# Altium integrated library Renesas Microcontroller H8S.IntLib: 670 symbols (part 7 of 70)
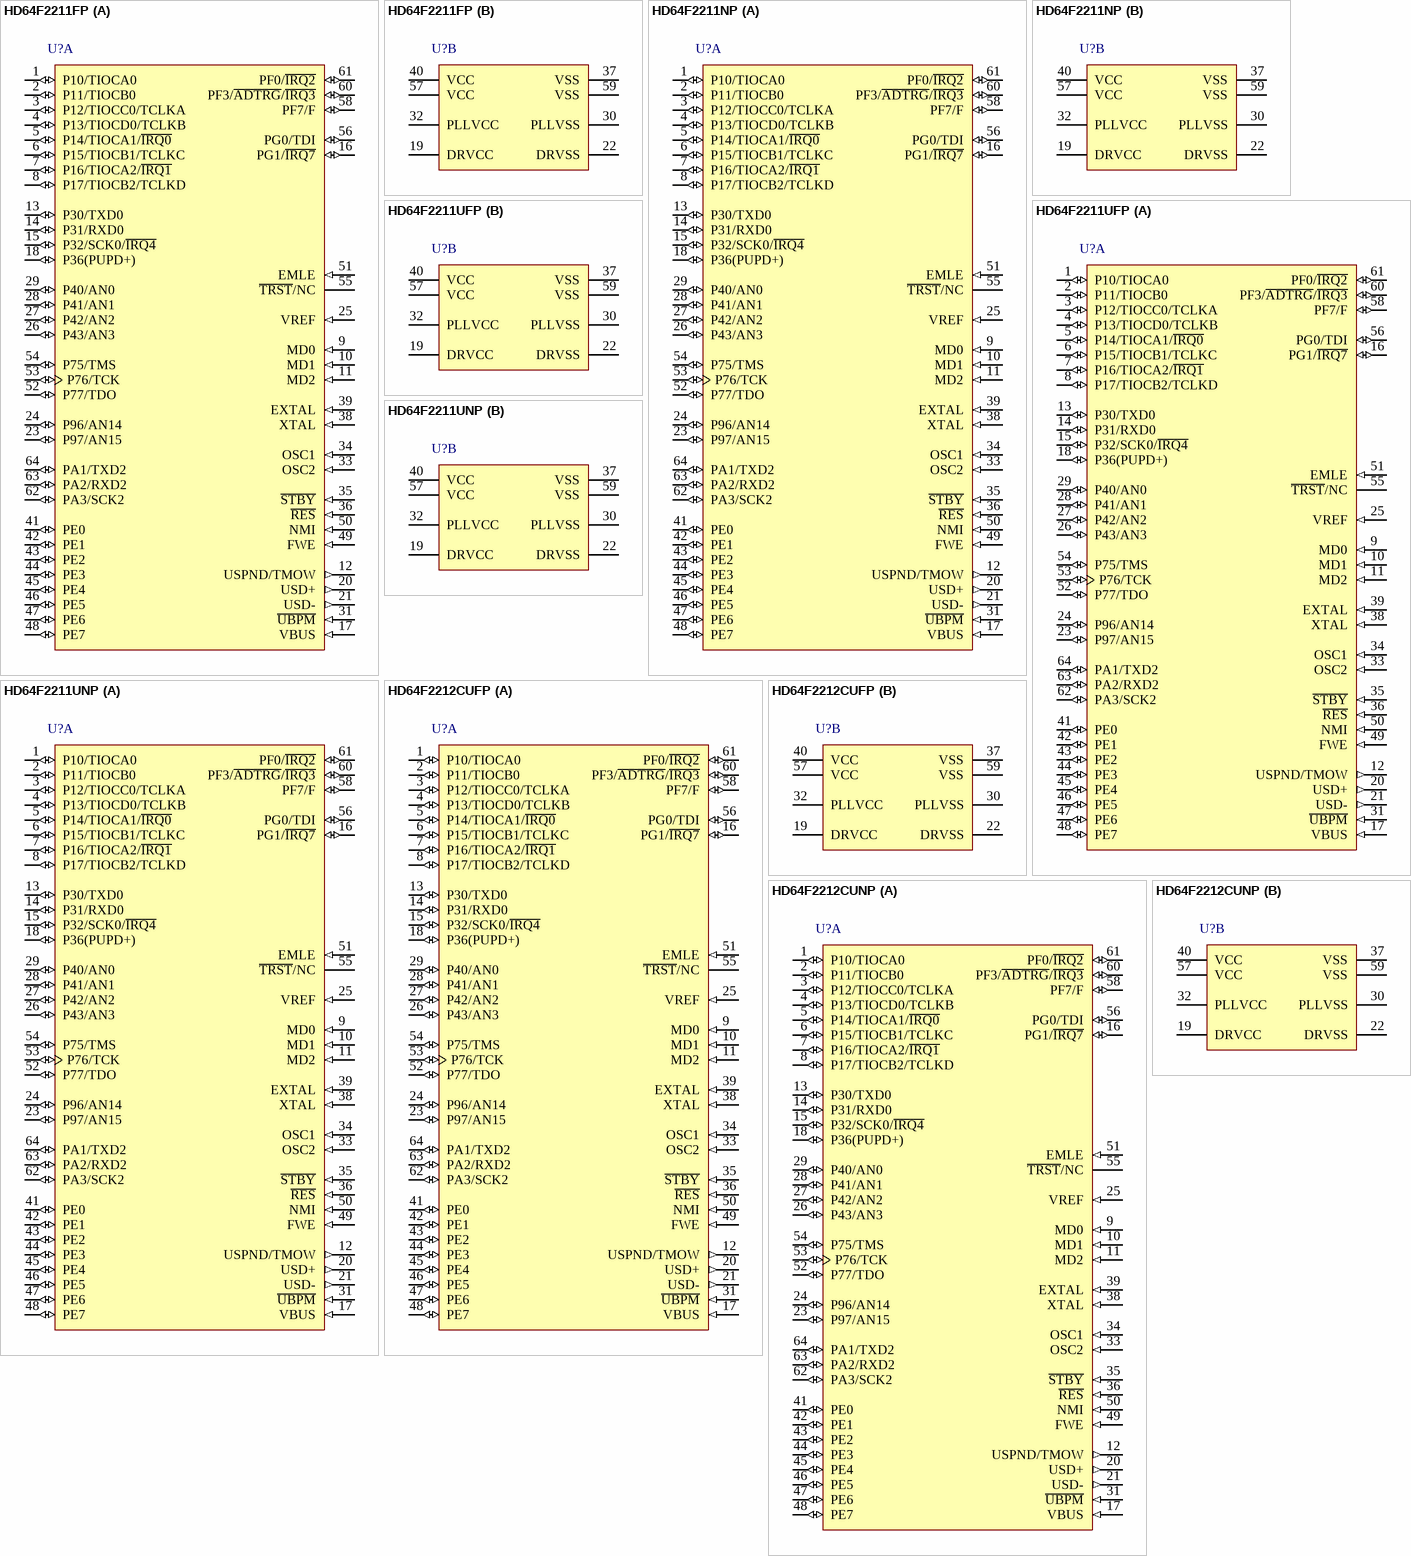
[diagram p248: symbols HD64F2211FP to HD64F2212CUNP]

## HD64F2212CUFP
designator U?
Flash memory H8S/2200 Series, 2212 Group MCU, 128K ROM, 12K RAM, FP-64E Pkg; Published: 28-Aug-2009; DatasheetVersion: Rev.7.00, Dec-2008; PackageVersion: Sep-2005; PackageReference: PLQP0064KC-A; Publisher: Altium Limited; PackageDescription: 64-Pin Plastic Low Profile QFP, 10 x 10 x 1.45 mm Body, 0.5 mm Pitch; Code_JEITA: P-LQFP64-10x10-0.50; Code_IPC: SQFP50P1200X1200-64; ComponentLink1Description: Manufacturer Link; ComponentLink1URL: http://sg.renesas.com/fmwk.jsp?cnt=h8s_family_landing.jsp&fp=/products/mpumcu/h8s_family/; ComponentLink2Description: Datasheet; ComponentLink2URL: http://documentation.renesas.com/eng/products/mpumcu/rej09b0074_h8s2212.pdf; ComponentLink3Description: Packaging Specification; ComponentLink3URL: http://sg.renesas.com/media/products/common_info/package/pdf/ic/code/plqp0064kc_a.pdf
footprint PLQP0064KC-A_N (Shrink QFP, 64-Leads, Body 10x10mm, Pitch 0.5mm, IPC Medium Density)
footprint PLQP0064KC-A_L (Shrink QFP, 64-Leads, Body 10x10mm, Pitch 0.5mm, IPC High Density)
footprint PLQP0064KC-A_M (Shrink QFP, 64-Leads, Body 10x10mm, Pitch 0.5mm, IPC Low Density)
part A pins: 1 P10/TIOCA0 (io), 2 P11/TIOCB0 (io), 3 P12/TIOCC0/TCLKA (io), 4 P13/TIOCD0/TCLKB (io), 5 P14/TIOCA1/~{IRQ0} (io), 6 P15/TIOCB1/TCLKC (io), 7 P16/TIOCA2/~{IRQ1} (io), 8 P17/TIOCB2/TCLKD (io), 9 MD0 (in), 10 MD1 (in), 11 MD2 (in), 12 USPND/TMOW (out), 13 P30/TXD0 (io), 14 P31/RXD0 (io), 15 P32/SCK0/~{IRQ4} (io), 16 PG1/~{IRQ7} (io), 17 VBUS (in), 18 P36(PUPD+) (io), 20 USD+ (out), 21 USD- (out), 23 P97/AN15 (io), 24 P96/AN14 (io), 25 VREF (in), 26 P43/AN3 (io), 27 P42/AN2 (io), 28 P41/AN1 (io), 29 P40/AN0 (io), 31 ~{UBPM} (in), 33 OSC2 (in), 34 OSC1 (in), 35 ~{STBY} (in), 36 ~{RES} (in), 38 XTAL (in), 39 EXTAL (in), 41 PE0 (io), 42 PE1 (io), 43 PE2 (io), 44 PE3 (io), 45 PE4 (io), 46 PE5 (io), 47 PE6 (io), 48 PE7 (io), 49 FWE (in), 50 NMI (in), 51 EMLE (in), 52 P77/TDO (io), 53 P76/TCK (io), 54 P75/TMS (io), 55 ~{TRST}/NC, 56 PG0/TDI (io), 58 PF7/F (io), 60 PF3/~{ADTRG}/~{IRQ3} (io), 61 PF0/~{IRQ2} (io), 62 PA3/SCK2 (io), 63 PA2/RXD2 (io), 64 PA1/TXD2 (io)
part B pins: 19 DRVCC (power), 22 DRVSS (power), 30 PLLVSS (power), 32 PLLVCC (power), 37 VSS (power), 40 VCC (power), 57 VCC (power), 59 VSS (power)

## HD64F2212CUNP
designator U?
Flash memory H8S/2200 Series, 2212 Group MCU, 128K ROM, 12K RAM, TNP-64B Pkg; Published: 28-Aug-2009; DatasheetVersion: Rev.7.00, Dec-2008; PackageVersion: Jun-2008; PackageReference: PVQN0064LB-A; Publisher: Altium Limited; PackageDescription: 64-Pin Plastic Very Thin QFN, 8 x 8 X 0.89 mm Body, 0.4 mm Pitch; Code_JEITA: P-VQFN64-8x8-0.40; ComponentLink1Description: Manufacturer Link; ComponentLink1URL: http://sg.renesas.com/fmwk.jsp?cnt=h8s_family_landing.jsp&fp=/products/mpumcu/h8s_family/; ComponentLink2Description: Datasheet; ComponentLink2URL: http://documentation.renesas.com/eng/products/mpumcu/rej09b0074_h8s2212.pdf; ComponentLink3Description: Packaging Specification; ComponentLink3URL: http://sg.renesas.com/media/products/common_info/package/pdf/ic/code/pvqn0064lb_a.pdf
footprint PVQN0064LB-A_N (QFN, 64-Leads, Body 8x8 mm, Pitch 0.4mm, IPC Medium Density)
footprint PVQN0064LB-A_L (QFN, 64-Leads, Body 8x8 mm, Pitch 0.4mm, IPC High Density)
footprint PVQN0064LB-A_M (QFN, 64-Leads, Body 8x8 mm, Pitch 0.4mm, IPC Low Density)
part A pins: 1 P10/TIOCA0 (io), 2 P11/TIOCB0 (io), 3 P12/TIOCC0/TCLKA (io), 4 P13/TIOCD0/TCLKB (io), 5 P14/TIOCA1/~{IRQ0} (io), 6 P15/TIOCB1/TCLKC (io), 7 P16/TIOCA2/~{IRQ1} (io), 8 P17/TIOCB2/TCLKD (io), 9 MD0 (in), 10 MD1 (in), 11 MD2 (in), 12 USPND/TMOW (out), 13 P30/TXD0 (io), 14 P31/RXD0 (io), 15 P32/SCK0/~{IRQ4} (io), 16 PG1/~{IRQ7} (io), 17 VBUS (in), 18 P36(PUPD+) (io), 20 USD+ (out), 21 USD- (out), 23 P97/AN15 (io), 24 P96/AN14 (io), 25 VREF (in), 26 P43/AN3 (io), 27 P42/AN2 (io), 28 P41/AN1 (io), 29 P40/AN0 (io), 31 ~{UBPM} (in), 33 OSC2 (in), 34 OSC1 (in), 35 ~{STBY} (in), 36 ~{RES} (in), 38 XTAL (in), 39 EXTAL (in), 41 PE0 (io), 42 PE1 (io), 43 PE2 (io), 44 PE3 (io), 45 PE4 (io), 46 PE5 (io), 47 PE6 (io), 48 PE7 (io), 49 FWE (in), 50 NMI (in), 51 EMLE (in), 52 P77/TDO (io), 53 P76/TCK (io), 54 P75/TMS (io), 55 ~{TRST}/NC, 56 PG0/TDI (io), 58 PF7/F (io), 60 PF3/~{ADTRG}/~{IRQ3} (io), 61 PF0/~{IRQ2} (io), 62 PA3/SCK2 (io), 63 PA2/RXD2 (io), 64 PA1/TXD2 (io)
part B pins: 19 DRVCC (power), 22 DRVSS (power), 30 PLLVSS (power), 32 PLLVCC (power), 37 VSS (power), 40 VCC (power), 57 VCC (power), 59 VSS (power)

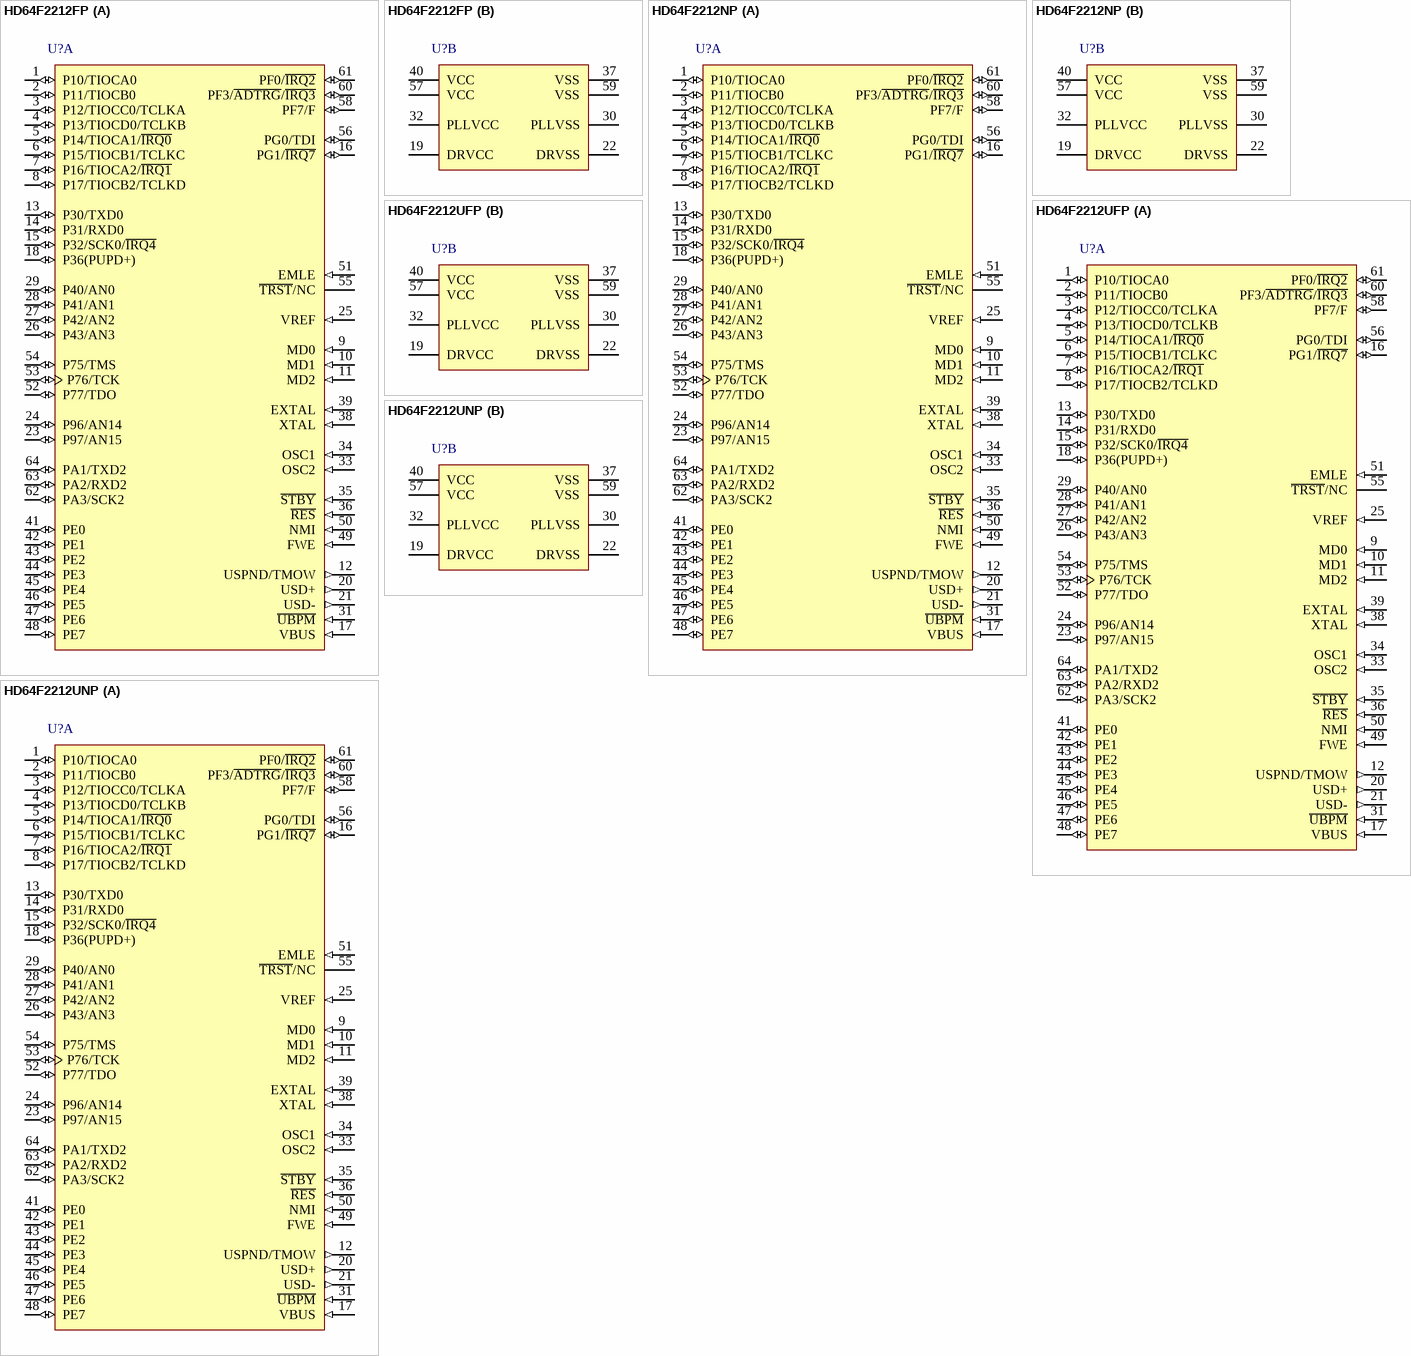
[diagram p23: symbols HD64F2212FP to HD64F2212UNP]

## HD64F2212FP
designator U?
Flash memory H8S/2200 Series, 2212 Group MCU, 128K ROM, 12K RAM, FP-64E Pkg; Published: 28-Aug-2009; DatasheetVersion: Rev.7.00, Dec-2008; PackageVersion: Sep-2005; PackageReference: PLQP0064KC-A; Publisher: Altium Limited; PackageDescription: 64-Pin Plastic Low Profile QFP, 10 x 10 x 1.45 mm Body, 0.5 mm Pitch; Code_JEITA: P-LQFP64-10x10-0.50; Code_IPC: SQFP50P1200X1200-64; ComponentLink1Description: Manufacturer Link; ComponentLink1URL: http://sg.renesas.com/fmwk.jsp?cnt=h8s_family_landing.jsp&fp=/products/mpumcu/h8s_family/; ComponentLink2Description: Datasheet; ComponentLink2URL: http://documentation.renesas.com/eng/products/mpumcu/rej09b0074_h8s2212.pdf; ComponentLink3Description: Packaging Specification; ComponentLink3URL: http://sg.renesas.com/media/products/common_info/package/pdf/ic/code/plqp0064kc_a.pdf
footprint PLQP0064KC-A_N (Shrink QFP, 64-Leads, Body 10x10mm, Pitch 0.5mm, IPC Medium Density)
footprint PLQP0064KC-A_L (Shrink QFP, 64-Leads, Body 10x10mm, Pitch 0.5mm, IPC High Density)
footprint PLQP0064KC-A_M (Shrink QFP, 64-Leads, Body 10x10mm, Pitch 0.5mm, IPC Low Density)
part A pins: 1 P10/TIOCA0 (io), 2 P11/TIOCB0 (io), 3 P12/TIOCC0/TCLKA (io), 4 P13/TIOCD0/TCLKB (io), 5 P14/TIOCA1/~{IRQ0} (io), 6 P15/TIOCB1/TCLKC (io), 7 P16/TIOCA2/~{IRQ1} (io), 8 P17/TIOCB2/TCLKD (io), 9 MD0 (in), 10 MD1 (in), 11 MD2 (in), 12 USPND/TMOW (out), 13 P30/TXD0 (io), 14 P31/RXD0 (io), 15 P32/SCK0/~{IRQ4} (io), 16 PG1/~{IRQ7} (io), 17 VBUS (in), 18 P36(PUPD+) (io), 20 USD+ (out), 21 USD- (out), 23 P97/AN15 (io), 24 P96/AN14 (io), 25 VREF (in), 26 P43/AN3 (io), 27 P42/AN2 (io), 28 P41/AN1 (io), 29 P40/AN0 (io), 31 ~{UBPM} (in), 33 OSC2 (in), 34 OSC1 (in), 35 ~{STBY} (in), 36 ~{RES} (in), 38 XTAL (in), 39 EXTAL (in), 41 PE0 (io), 42 PE1 (io), 43 PE2 (io), 44 PE3 (io), 45 PE4 (io), 46 PE5 (io), 47 PE6 (io), 48 PE7 (io), 49 FWE (in), 50 NMI (in), 51 EMLE (in), 52 P77/TDO (io), 53 P76/TCK (io), 54 P75/TMS (io), 55 ~{TRST}/NC, 56 PG0/TDI (io), 58 PF7/F (io), 60 PF3/~{ADTRG}/~{IRQ3} (io), 61 PF0/~{IRQ2} (io), 62 PA3/SCK2 (io), 63 PA2/RXD2 (io), 64 PA1/TXD2 (io)
part B pins: 19 DRVCC (power), 22 DRVSS (power), 30 PLLVSS (power), 32 PLLVCC (power), 37 VSS (power), 40 VCC (power), 57 VCC (power), 59 VSS (power)

## HD64F2212NP
designator U?
Flash memory H8S/2200 Series, 2212 Group MCU, 128K ROM, 12K RAM, TNP-64B Pkg; Published: 28-Aug-2009; DatasheetVersion: Rev.7.00, Dec-2008; PackageVersion: Jun-2008; PackageReference: PVQN0064LB-A; Publisher: Altium Limited; PackageDescription: 64-Pin Plastic Very Thin QFN, 8 x 8 X 0.89 mm Body, 0.4 mm Pitch; Code_JEITA: P-VQFN64-8x8-0.40; ComponentLink1Description: Manufacturer Link; ComponentLink1URL: http://sg.renesas.com/fmwk.jsp?cnt=h8s_family_landing.jsp&fp=/products/mpumcu/h8s_family/; ComponentLink2Description: Datasheet; ComponentLink2URL: http://documentation.renesas.com/eng/products/mpumcu/rej09b0074_h8s2212.pdf; ComponentLink3Description: Packaging Specification; ComponentLink3URL: http://sg.renesas.com/media/products/common_info/package/pdf/ic/code/pvqn0064lb_a.pdf
footprint PVQN0064LB-A_N (QFN, 64-Leads, Body 8x8 mm, Pitch 0.4mm, IPC Medium Density)
footprint PVQN0064LB-A_L (QFN, 64-Leads, Body 8x8 mm, Pitch 0.4mm, IPC High Density)
footprint PVQN0064LB-A_M (QFN, 64-Leads, Body 8x8 mm, Pitch 0.4mm, IPC Low Density)
part A pins: 1 P10/TIOCA0 (io), 2 P11/TIOCB0 (io), 3 P12/TIOCC0/TCLKA (io), 4 P13/TIOCD0/TCLKB (io), 5 P14/TIOCA1/~{IRQ0} (io), 6 P15/TIOCB1/TCLKC (io), 7 P16/TIOCA2/~{IRQ1} (io), 8 P17/TIOCB2/TCLKD (io), 9 MD0 (in), 10 MD1 (in), 11 MD2 (in), 12 USPND/TMOW (out), 13 P30/TXD0 (io), 14 P31/RXD0 (io), 15 P32/SCK0/~{IRQ4} (io), 16 PG1/~{IRQ7} (io), 17 VBUS (in), 18 P36(PUPD+) (io), 20 USD+ (out), 21 USD- (out), 23 P97/AN15 (io), 24 P96/AN14 (io), 25 VREF (in), 26 P43/AN3 (io), 27 P42/AN2 (io), 28 P41/AN1 (io), 29 P40/AN0 (io), 31 ~{UBPM} (in), 33 OSC2 (in), 34 OSC1 (in), 35 ~{STBY} (in), 36 ~{RES} (in), 38 XTAL (in), 39 EXTAL (in), 41 PE0 (io), 42 PE1 (io), 43 PE2 (io), 44 PE3 (io), 45 PE4 (io), 46 PE5 (io), 47 PE6 (io), 48 PE7 (io), 49 FWE (in), 50 NMI (in), 51 EMLE (in), 52 P77/TDO (io), 53 P76/TCK (io), 54 P75/TMS (io), 55 ~{TRST}/NC, 56 PG0/TDI (io), 58 PF7/F (io), 60 PF3/~{ADTRG}/~{IRQ3} (io), 61 PF0/~{IRQ2} (io), 62 PA3/SCK2 (io), 63 PA2/RXD2 (io), 64 PA1/TXD2 (io)
part B pins: 19 DRVCC (power), 22 DRVSS (power), 30 PLLVSS (power), 32 PLLVCC (power), 37 VSS (power), 40 VCC (power), 57 VCC (power), 59 VSS (power)

## HD64F2212UFP
designator U?
Flash memory H8S/2200 Series, 2212 Group MCU, 128K ROM, 12K RAM, FP-64E Pkg; Published: 28-Aug-2009; DatasheetVersion: Rev.7.00, Dec-2008; PackageVersion: Sep-2005; PackageReference: PLQP0064KC-A; Publisher: Altium Limited; PackageDescription: 64-Pin Plastic Low Profile QFP, 10 x 10 x 1.45 mm Body, 0.5 mm Pitch; Code_JEITA: P-LQFP64-10x10-0.50; Code_IPC: SQFP50P1200X1200-64; ComponentLink1Description: Manufacturer Link; ComponentLink1URL: http://sg.renesas.com/fmwk.jsp?cnt=h8s_family_landing.jsp&fp=/products/mpumcu/h8s_family/; ComponentLink2Description: Datasheet; ComponentLink2URL: http://documentation.renesas.com/eng/products/mpumcu/rej09b0074_h8s2212.pdf; ComponentLink3Description: Packaging Specification; ComponentLink3URL: http://sg.renesas.com/media/products/common_info/package/pdf/ic/code/plqp0064kc_a.pdf
footprint PLQP0064KC-A_N (Shrink QFP, 64-Leads, Body 10x10mm, Pitch 0.5mm, IPC Medium Density)
footprint PLQP0064KC-A_L (Shrink QFP, 64-Leads, Body 10x10mm, Pitch 0.5mm, IPC High Density)
footprint PLQP0064KC-A_M (Shrink QFP, 64-Leads, Body 10x10mm, Pitch 0.5mm, IPC Low Density)
part A pins: 1 P10/TIOCA0 (io), 2 P11/TIOCB0 (io), 3 P12/TIOCC0/TCLKA (io), 4 P13/TIOCD0/TCLKB (io), 5 P14/TIOCA1/~{IRQ0} (io), 6 P15/TIOCB1/TCLKC (io), 7 P16/TIOCA2/~{IRQ1} (io), 8 P17/TIOCB2/TCLKD (io), 9 MD0 (in), 10 MD1 (in), 11 MD2 (in), 12 USPND/TMOW (out), 13 P30/TXD0 (io), 14 P31/RXD0 (io), 15 P32/SCK0/~{IRQ4} (io), 16 PG1/~{IRQ7} (io), 17 VBUS (in), 18 P36(PUPD+) (io), 20 USD+ (out), 21 USD- (out), 23 P97/AN15 (io), 24 P96/AN14 (io), 25 VREF (in), 26 P43/AN3 (io), 27 P42/AN2 (io), 28 P41/AN1 (io), 29 P40/AN0 (io), 31 ~{UBPM} (in), 33 OSC2 (in), 34 OSC1 (in), 35 ~{STBY} (in), 36 ~{RES} (in), 38 XTAL (in), 39 EXTAL (in), 41 PE0 (io), 42 PE1 (io), 43 PE2 (io), 44 PE3 (io), 45 PE4 (io), 46 PE5 (io), 47 PE6 (io), 48 PE7 (io), 49 FWE (in), 50 NMI (in), 51 EMLE (in), 52 P77/TDO (io), 53 P76/TCK (io), 54 P75/TMS (io), 55 ~{TRST}/NC, 56 PG0/TDI (io), 58 PF7/F (io), 60 PF3/~{ADTRG}/~{IRQ3} (io), 61 PF0/~{IRQ2} (io), 62 PA3/SCK2 (io), 63 PA2/RXD2 (io), 64 PA1/TXD2 (io)
part B pins: 19 DRVCC (power), 22 DRVSS (power), 30 PLLVSS (power), 32 PLLVCC (power), 37 VSS (power), 40 VCC (power), 57 VCC (power), 59 VSS (power)

## HD64F2212UNP
designator U?
Mask ROM H8S/2200 Series, 2212 Group MCU, 128K ROM, 12K RAM, TNP-64B Pkg; Published: 28-Aug-2009; DatasheetVersion: Rev.7.00, Dec-2008; PackageVersion: Jun-2008; PackageReference: PVQN0064LB-A; Publisher: Altium Limited; PackageDescription: 64-Pin Plastic Very Thin QFN, 8 x 8 X 0.89 mm Body, 0.4 mm Pitch; Code_JEITA: P-VQFN64-8x8-0.40; ComponentLink1Description: Manufacturer Link; ComponentLink1URL: http://sg.renesas.com/fmwk.jsp?cnt=h8s_family_landing.jsp&fp=/products/mpumcu/h8s_family/; ComponentLink2Description: Datasheet; ComponentLink2URL: http://documentation.renesas.com/eng/products/mpumcu/rej09b0074_h8s2212.pdf; ComponentLink3Description: Packaging Specification; ComponentLink3URL: http://sg.renesas.com/media/products/common_info/package/pdf/ic/code/pvqn0064lb_a.pdf
footprint PVQN0064LB-A_N (QFN, 64-Leads, Body 8x8 mm, Pitch 0.4mm, IPC Medium Density)
footprint PVQN0064LB-A_L (QFN, 64-Leads, Body 8x8 mm, Pitch 0.4mm, IPC High Density)
footprint PVQN0064LB-A_M (QFN, 64-Leads, Body 8x8 mm, Pitch 0.4mm, IPC Low Density)
part A pins: 1 P10/TIOCA0 (io), 2 P11/TIOCB0 (io), 3 P12/TIOCC0/TCLKA (io), 4 P13/TIOCD0/TCLKB (io), 5 P14/TIOCA1/~{IRQ0} (io), 6 P15/TIOCB1/TCLKC (io), 7 P16/TIOCA2/~{IRQ1} (io), 8 P17/TIOCB2/TCLKD (io), 9 MD0 (in), 10 MD1 (in), 11 MD2 (in), 12 USPND/TMOW (out), 13 P30/TXD0 (io), 14 P31/RXD0 (io), 15 P32/SCK0/~{IRQ4} (io), 16 PG1/~{IRQ7} (io), 17 VBUS (in), 18 P36(PUPD+) (io), 20 USD+ (out), 21 USD- (out), 23 P97/AN15 (io), 24 P96/AN14 (io), 25 VREF (in), 26 P43/AN3 (io), 27 P42/AN2 (io), 28 P41/AN1 (io), 29 P40/AN0 (io), 31 ~{UBPM} (in), 33 OSC2 (in), 34 OSC1 (in), 35 ~{STBY} (in), 36 ~{RES} (in), 38 XTAL (in), 39 EXTAL (in), 41 PE0 (io), 42 PE1 (io), 43 PE2 (io), 44 PE3 (io), 45 PE4 (io), 46 PE5 (io), 47 PE6 (io), 48 PE7 (io), 49 FWE (in), 50 NMI (in), 51 EMLE (in), 52 P77/TDO (io), 53 P76/TCK (io), 54 P75/TMS (io), 55 ~{TRST}/NC, 56 PG0/TDI (io), 58 PF7/F (io), 60 PF3/~{ADTRG}/~{IRQ3} (io), 61 PF0/~{IRQ2} (io), 62 PA3/SCK2 (io), 63 PA2/RXD2 (io), 64 PA1/TXD2 (io)
part B pins: 19 DRVCC (power), 22 DRVSS (power), 30 PLLVSS (power), 32 PLLVCC (power), 37 VSS (power), 40 VCC (power), 57 VCC (power), 59 VSS (power)

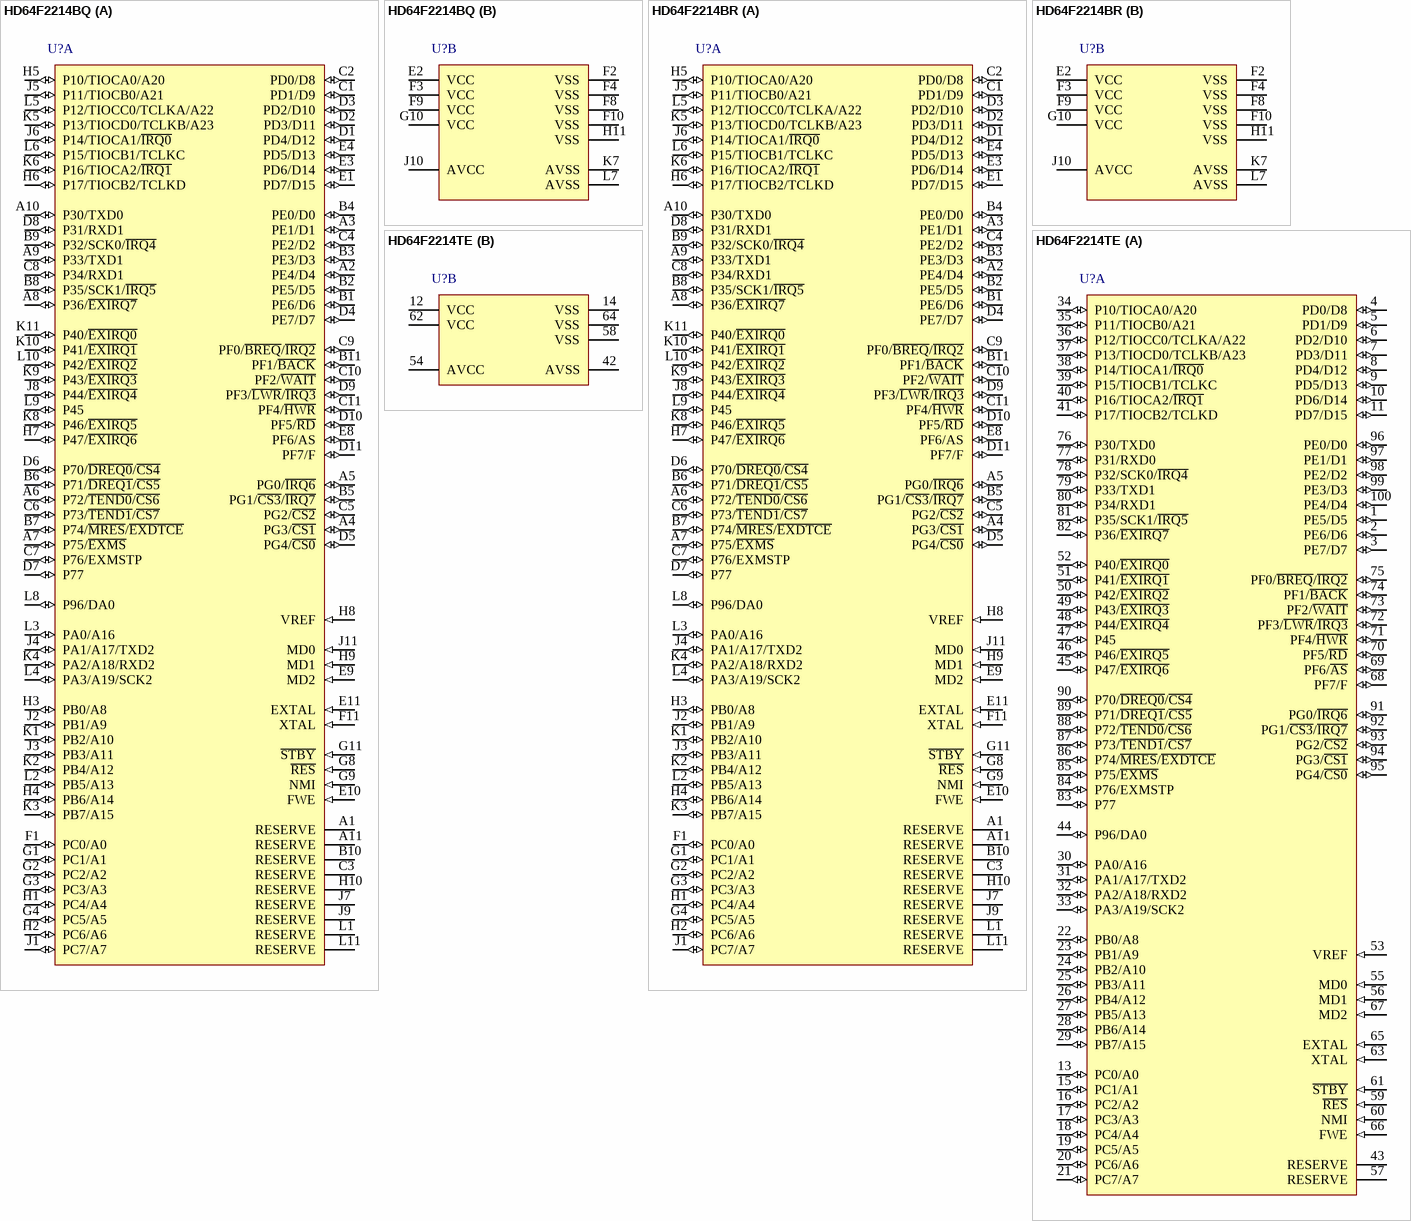
[diagram p24: symbols HD64F2214BQ to HD64F2214TE]

## HD64F2214BQ
designator U?
Flash memory H8S/2200 Series, 2214 Group MCU, 128K ROM, 12K RAM, TBP-112A Pkg; Published: 28-Aug-2009; DatasheetVersion: Rev.4.00, Sep-2008; PackageVersion: Sep-2005; PackageReference: TTBG0112GA-A; Publisher: Altium Limited; PackageDescription: 112-Ball Thin Fine Pitch Ball Grid Array, 10 x 10 mm Body, 0.8 mm Pitch; Code_JEITA: T-TFBGA112-10x10-0.80; ComponentLink1Description: Manufacturer Link; ComponentLink1URL: http://sg.renesas.com/fmwk.jsp?cnt=h8s_family_landing.jsp&fp=/products/mpumcu/h8s_family/; ComponentLink2Description: Datasheet; ComponentLink2URL: http://documentation.renesas.com/eng/products/mpumcu/rej09b0189_h8s2214.pdf; ComponentLink3Description: Packaging Specification; ComponentLink3URL: http://sg.renesas.com/media/products/common_info/package/pdf/ic/code/ttbg0112ga_a.pdf
footprint TTBG0112GA-A (BGA, 112-Leads, Body 10x10mm, Pitch 0.8mm)
part A pins: A1 RESERVE, A2 PE4/D4 (io), A3 PE1/D1 (io), A4 PG3/~{CS1} (io), A5 PG0/~{IRQ6} (io), A6 P72/~{TEND0}/~{CS6} (io), A7 P75/~{EXMS} (io), A8 P36/~{EXIRQ7} (io), A9 P33/TXD1 (io), A10 P30/TXD0 (io), A11 RESERVE, B1 PE6/D6 (io), B2 PE5/D5 (io), B3 PE3/D3 (io), B4 PE0/D0 (io), B5 PG1/~{CS3}/~{IRQ7} (io), B6 P71/~{DREQ1}/~{CS5} (io), B7 P74/~{MRES}/~{EXDTCE} (io), B8 P35/SCK1/~{IRQ5} (io), B9 P32/SCK0/~{IRQ4} (io), B10 RESERVE, B11 PF1/~{BACK} (io), C1 PD1/D9 (io), C2 PD0/D8 (io), C3 RESERVE, C4 PE2/D2 (io), C5 PG2/~{CS2} (io), C6 P73/~{TEND1}/~{CS7} (io), C7 P76/EXMSTP (io), C8 P34/RXD1 (io), C9 PF0/~{BREQ}/~{IRQ2} (io), C10 PF2/~{WAIT} (io), C11 PF4/~{HWR} (io), D1 PD4/D12 (io), D2 PD3/D11 (io), D3 PD2/D10 (io), D4 PE7/D7 (io), D5 PG4/~{CS0} (io), D6 P70/~{DREQ0}/~{CS4} (io), D7 P77 (io), D8 P31/RXD1 (io), D9 PF3/~{LWR}/~{IRQ3} (io), D10 PF5/~{RD} (io), D11 PF7/F (io), E1 PD7/D15 (io), E3 PD6/D14 (io), E4 PD5/D13 (io), E8 PF6/AS (io), E9 MD2 (in), E10 FWE (in), E11 EXTAL (in), F1 PC0/A0 (io), F11 XTAL (in), G1 PC1/A1 (io), G2 PC2/A2 (io), G3 PC3/A3 (io), G4 PC5/A5 (io), G8 ~{RES} (in), G9 NMI (in), G11 ~{STBY} (in), H1 PC4/A4 (io), H2 PC6/A6 (io), H3 PB0/A8 (io), H4 PB6/A14 (io), H5 P10/TIOCA0/A20 (io), H6 P17/TIOCB2/TCLKD (io), H7 P47/~{EXIRQ6} (io), H8 VREF (in), H9 MD1 (in), H10 RESERVE, J1 PC7/A7 (io), J2 PB1/A9 (io), J3 PB3/A11 (io), J4 PA1/A17/TXD2 (io), J5 P11/TIOCB0/A21 (io), J6 P14/TIOCA1/~{IRQ0} (io), J7 RESERVE, J8 P44/~{EXIRQ4} (io), J9 RESERVE, J11 MD0 (in), K1 PB2/A10 (io), K2 PB4/A12 (io), K3 PB7/A15 (io), K4 PA2/A18/RXD2 (io), K5 P13/TIOCD0/TCLKB/A23 (io), K6 P16/TIOCA2/~{IRQ1} (io), K8 P46/~{EXIRQ5} (io), K9 P43/~{EXIRQ3} (io), K10 P41/~{EXIRQ1} (io), K11 P40/~{EXIRQ0} (io), L1 RESERVE, L2 PB5/A13 (io), L3 PA0/A16 (io), L4 PA3/A19/SCK2 (io), L5 P12/TIOCC0/TCLKA/A22 (io), L6 P15/TIOCB1/TCLKC (io), L8 P96/DA0 (io), L9 P45 (io), L10 P42/~{EXIRQ2} (io), L11 RESERVE
part B pins: E2 VCC (power), F2 VSS (power), F3 VCC (power), F4 VSS (power), F8 VSS (power), F9 VCC (power), F10 VSS (power), G10 VCC (power), H11 VSS (power), J10 AVCC (power), K7 AVSS (power), L7 AVSS (power)

## HD64F2214BR
designator U?
Flash memory H8S/2200 Series, 2214 Group MCU, 128K ROM, 12K RAM, BP-112 Pkg; Published: 28-Aug-2009; DatasheetVersion: Rev.4.00, Sep-2008; PackageVersion: Sep-2005; PackageReference: PLBG0112GA-A; Publisher: Altium Limited; PackageDescription: 112-Ball Plastic Low Profile Thin-Fine Pitch BGA, 10 x 10 mm Body, 0.8 mm Pitch; Code_JEITA: P-LFBGA112-10x10-0.80; ComponentLink1Description: Manufacturer Link; ComponentLink1URL: http://sg.renesas.com/fmwk.jsp?cnt=h8s_family_landing.jsp&fp=/products/mpumcu/h8s_family/; ComponentLink2Description: Datasheet; ComponentLink2URL: http://documentation.renesas.com/eng/products/mpumcu/rej09b0189_h8s2214.pdf; ComponentLink3Description: Packaging Specification; ComponentLink3URL: http://sg.renesas.com/media/products/common_info/package/pdf/ic/code/plbg0112ga_a.pdf
footprint PLBG0112GA-A (BGA, 112-Leads, Body 10x10mm, Pitch 0.8mm)
part A pins: A1 RESERVE, A2 PE4/D4 (io), A3 PE1/D1 (io), A4 PG3/~{CS1} (io), A5 PG0/~{IRQ6} (io), A6 P72/~{TEND0}/~{CS6} (io), A7 P75/~{EXMS} (io), A8 P36/~{EXIRQ7} (io), A9 P33/TXD1 (io), A10 P30/TXD0 (io), A11 RESERVE, B1 PE6/D6 (io), B2 PE5/D5 (io), B3 PE3/D3 (io), B4 PE0/D0 (io), B5 PG1/~{CS3}/~{IRQ7} (io), B6 P71/~{DREQ1}/~{CS5} (io), B7 P74/~{MRES}/~{EXDTCE} (io), B8 P35/SCK1/~{IRQ5} (io), B9 P32/SCK0/~{IRQ4} (io), B10 RESERVE, B11 PF1/~{BACK} (io), C1 PD1/D9 (io), C2 PD0/D8 (io), C3 RESERVE, C4 PE2/D2 (io), C5 PG2/~{CS2} (io), C6 P73/~{TEND1}/~{CS7} (io), C7 P76/EXMSTP (io), C8 P34/RXD1 (io), C9 PF0/~{BREQ}/~{IRQ2} (io), C10 PF2/~{WAIT} (io), C11 PF4/~{HWR} (io), D1 PD4/D12 (io), D2 PD3/D11 (io), D3 PD2/D10 (io), D4 PE7/D7 (io), D5 PG4/~{CS0} (io), D6 P70/~{DREQ0}/~{CS4} (io), D7 P77 (io), D8 P31/RXD1 (io), D9 PF3/~{LWR}/~{IRQ3} (io), D10 PF5/~{RD} (io), D11 PF7/F (io), E1 PD7/D15 (io), E3 PD6/D14 (io), E4 PD5/D13 (io), E8 PF6/AS (io), E9 MD2 (in), E10 FWE (in), E11 EXTAL (in), F1 PC0/A0 (io), F11 XTAL (in), G1 PC1/A1 (io), G2 PC2/A2 (io), G3 PC3/A3 (io), G4 PC5/A5 (io), G8 ~{RES} (in), G9 NMI (in), G11 ~{STBY} (in), H1 PC4/A4 (io), H2 PC6/A6 (io), H3 PB0/A8 (io), H4 PB6/A14 (io), H5 P10/TIOCA0/A20 (io), H6 P17/TIOCB2/TCLKD (io), H7 P47/~{EXIRQ6} (io), H8 VREF (in), H9 MD1 (in), H10 RESERVE, J1 PC7/A7 (io), J2 PB1/A9 (io), J3 PB3/A11 (io), J4 PA1/A17/TXD2 (io), J5 P11/TIOCB0/A21 (io), J6 P14/TIOCA1/~{IRQ0} (io), J7 RESERVE, J8 P44/~{EXIRQ4} (io), J9 RESERVE, J11 MD0 (in), K1 PB2/A10 (io), K2 PB4/A12 (io), K3 PB7/A15 (io), K4 PA2/A18/RXD2 (io), K5 P13/TIOCD0/TCLKB/A23 (io), K6 P16/TIOCA2/~{IRQ1} (io), K8 P46/~{EXIRQ5} (io), K9 P43/~{EXIRQ3} (io), K10 P41/~{EXIRQ1} (io), K11 P40/~{EXIRQ0} (io), L1 RESERVE, L2 PB5/A13 (io), L3 PA0/A16 (io), L4 PA3/A19/SCK2 (io), L5 P12/TIOCC0/TCLKA/A22 (io), L6 P15/TIOCB1/TCLKC (io), L8 P96/DA0 (io), L9 P45 (io), L10 P42/~{EXIRQ2} (io), L11 RESERVE
part B pins: E2 VCC (power), F2 VSS (power), F3 VCC (power), F4 VSS (power), F8 VSS (power), F9 VCC (power), F10 VSS (power), G10 VCC (power), H11 VSS (power), J10 AVCC (power), K7 AVSS (power), L7 AVSS (power)

## HD64F2214TE
designator U?
Flash memory H8S/2200 Series, 2214 Group MCU, 128K ROM, 12K RAM, TFP-100B Pkg; Published: 28-Aug-2009; DatasheetVersion: Rev.4.00, Sep-2008; PackageVersion: Sep-2005; PackageReference: PTQP0100KA-A; Publisher: Altium Limited; PackageDescription: 100-Pin Plastic Thin Quad Flat Pack, 14 x 14 x 1.0 mm Body, 0.5 mm Pitch; Code_JEITA: P-TQFP100-14x14-0.50; ComponentLink1Description: Manufacturer Link; ComponentLink1URL: http://sg.renesas.com/fmwk.jsp?cnt=h8s_family_landing.jsp&fp=/products/mpumcu/h8s_family/; ComponentLink2Description: Datasheet; ComponentLink2URL: http://documentation.renesas.com/eng/products/mpumcu/rej09b0189_h8s2214.pdf; ComponentLink3Description: Packaging Specification; ComponentLink3URL: http://sg.renesas.com/media/products/common_info/package/pdf/ic/code/ptqp0100ka_a.pdf
footprint PTQP0100KA-A_N (Thin QFP, 100-Leads, Body 14x14mm, Pitch 0.5mm, IPC Medium Density)
footprint PTQP0100KA-A_L (Thin QFP, 100-Leads, Body 14x14mm, Pitch 0.5mm, IPC High Density)
footprint PTQP0100KA-A_M (Thin QFP, 100-Leads, Body 14x14mm, Pitch 0.5mm, IPC Low Density)
part A pins: 1 PE5/D5 (io), 2 PE6/D6 (io), 3 PE7/D7 (io), 4 PD0/D8 (io), 5 PD1/D9 (io), 6 PD2/D10 (io), 7 PD3/D11 (io), 8 PD4/D12 (io), 9 PD5/D13 (io), 10 PD6/D14 (io), 11 PD7/D15 (io), 13 PC0/A0 (io), 15 PC1/A1 (io), 16 PC2/A2 (io), 17 PC3/A3 (io), 18 PC4/A4 (io), 19 PC5/A5 (io), 20 PC6/A6 (io), 21 PC7/A7 (io), 22 PB0/A8 (io), 23 PB1/A9 (io), 24 PB2/A10 (io), 25 PB3/A11 (io), 26 PB4/A12 (io), 27 PB5/A13 (io), 28 PB6/A14 (io), 29 PB7/A15 (io), 30 PA0/A16 (io), 31 PA1/A17/TXD2 (io), 32 PA2/A18/RXD2 (io), 33 PA3/A19/SCK2 (io), 34 P10/TIOCA0/A20 (io), 35 P11/TIOCB0/A21 (io), 36 P12/TIOCC0/TCLKA/A22 (io), 37 P13/TIOCD0/TCLKB/A23 (io), 38 P14/TIOCA1/~{IRQ0} (io), 39 P15/TIOCB1/TCLKC (io), 40 P16/TIOCA2/~{IRQ1} (io), 41 P17/TIOCB2/TCLKD (io), 43 RESERVE, 44 P96/DA0 (io), 45 P47/~{EXIRQ6} (io), 46 P46/~{EXIRQ5} (io), 47 P45 (io), 48 P44/~{EXIRQ4} (io), 49 P43/~{EXIRQ3} (io), 50 P42/~{EXIRQ2} (io), 51 P41/~{EXIRQ1} (io), 52 P40/~{EXIRQ0} (io), 53 VREF (in), 55 MD0 (in), 56 MD1 (in), 57 RESERVE, 59 ~{RES} (in), 60 NMI (in), 61 ~{STBY} (in), 63 XTAL (in), 65 EXTAL (in), 66 FWE (in), 67 MD2 (in), 68 PF7/F (io), 69 PF6/~{AS} (io), 70 PF5/~{RD} (io), 71 PF4/~{HWR} (io), 72 PF3/~{LWR}/~{IRQ3} (io), 73 PF2/~{WAIT} (io), 74 PF1/~{BACK} (io), 75 PF0/~{BREQ}/~{IRQ2} (io), 76 P30/TXD0 (io), 77 P31/RXD0 (io), 78 P32/SCK0/~{IRQ4} (io), 79 P33/TXD1 (io), 80 P34/RXD1 (io), 81 P35/SCK1/~{IRQ5} (io), 82 P36/~{EXIRQ7} (io), 83 P77 (io), 84 P76/EXMSTP (io), 85 P75/~{EXMS} (io), 86 P74/~{MRES}/~{EXDTCE} (io), 87 P73/~{TEND1}/~{CS7} (io), 88 P72/~{TEND0}/~{CS6} (io), 89 P71/~{DREQ1}/~{CS5} (io), 90 P70/~{DREQ0}/~{CS4} (io), 91 PG0/~{IRQ6} (io), 92 PG1/~{CS3}/~{IRQ7} (io), 93 PG2/~{CS2} (io), 94 PG3/~{CS1} (io), 95 PG4/~{CS0} (io), 96 PE0/D0 (io), 97 PE1/D1 (io), 98 PE2/D2 (io), 99 PE3/D3 (io), 100 PE4/D4 (io)
part B pins: 12 VCC (power), 14 VSS (power), 42 AVSS (power), 54 AVCC (power), 58 VSS (power), 62 VCC (power), 64 VSS (power)

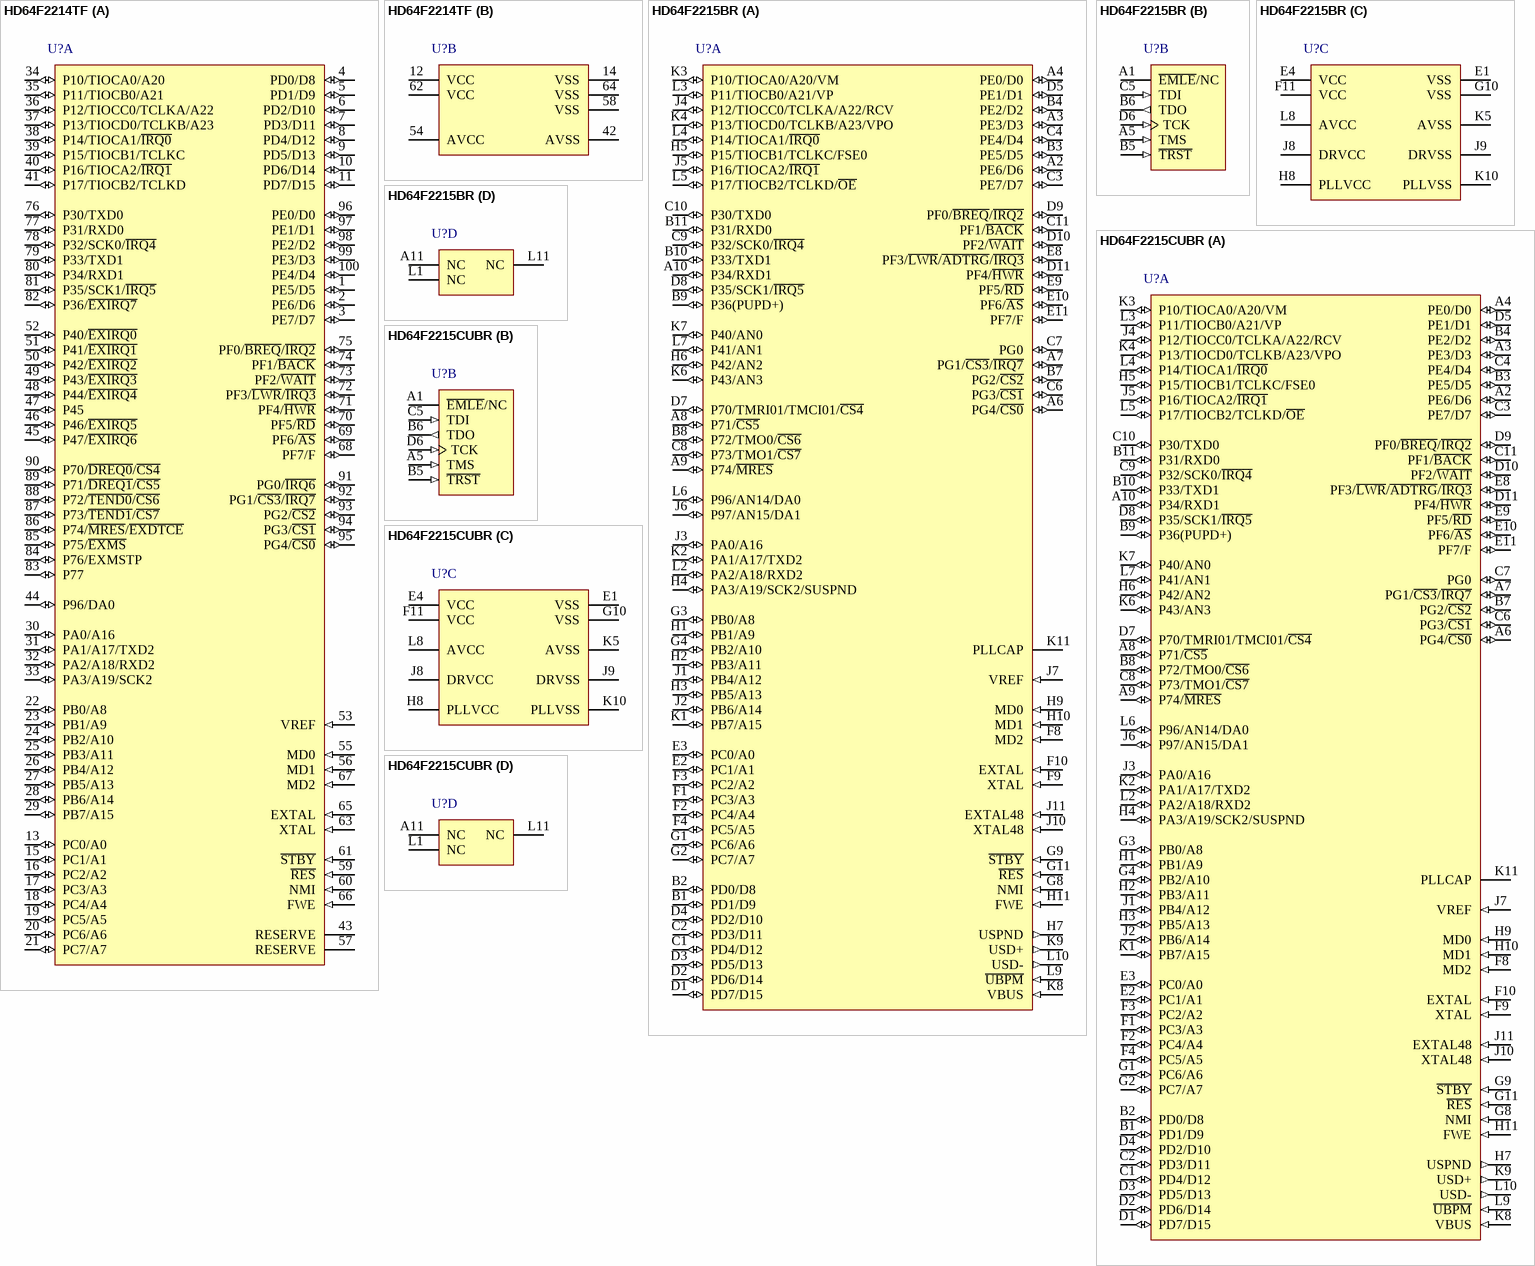
[diagram p25: symbols HD64F2214TF to HD64F2215CUBR]

## HD64F2214TF
designator U?
Flash memory H8S/2200 Series, 2214 Group MCU, 128K ROM, 12K RAM, TFP-100G Pkg; Published: 28-Aug-2009; DatasheetVersion: Rev.4.00, Sep-2008; PackageVersion: Sep-2005; PackageReference: PTQP0100LC-A; Publisher: Altium Limited; PackageDescription: 100-Pin Plastic Thin QFP, 12 x 12 x 1.0 mm Body, 0.4 mm Pitch; Code_JEITA: P-TQFP100-12x12-0.40; ComponentLink1Description: Manufacturer Link; ComponentLink1URL: http://sg.renesas.com/fmwk.jsp?cnt=h8s_family_landing.jsp&fp=/products/mpumcu/h8s_family/; ComponentLink2Description: Datasheet; ComponentLink2URL: http://documentation.renesas.com/eng/products/mpumcu/rej09b0189_h8s2214.pdf; ComponentLink3Description: Packaging Specification; ComponentLink3URL: http://sg.renesas.com/media/products/common_info/package/pdf/ic/code/ptqp0100lc_a.pdf
footprint PTQP0100LC-A_N (Thin QFP, 100-Leads, Body 12x12mm, Pitch 0.4mm, IPC Medium Density)
footprint PTQP0100LC-A_L (Thin QFP, 100-Leads, Body 12x12mm, Pitch 0.4mm, IPC High Density)
footprint PTQP0100LC-A_M (Thin QFP, 100-Leads, Body 12x12mm, Pitch 0.4mm, IPC Low Density)
part A pins: 1 PE5/D5 (io), 2 PE6/D6 (io), 3 PE7/D7 (io), 4 PD0/D8 (io), 5 PD1/D9 (io), 6 PD2/D10 (io), 7 PD3/D11 (io), 8 PD4/D12 (io), 9 PD5/D13 (io), 10 PD6/D14 (io), 11 PD7/D15 (io), 13 PC0/A0 (io), 15 PC1/A1 (io), 16 PC2/A2 (io), 17 PC3/A3 (io), 18 PC4/A4 (io), 19 PC5/A5 (io), 20 PC6/A6 (io), 21 PC7/A7 (io), 22 PB0/A8 (io), 23 PB1/A9 (io), 24 PB2/A10 (io), 25 PB3/A11 (io), 26 PB4/A12 (io), 27 PB5/A13 (io), 28 PB6/A14 (io), 29 PB7/A15 (io), 30 PA0/A16 (io), 31 PA1/A17/TXD2 (io), 32 PA2/A18/RXD2 (io), 33 PA3/A19/SCK2 (io), 34 P10/TIOCA0/A20 (io), 35 P11/TIOCB0/A21 (io), 36 P12/TIOCC0/TCLKA/A22 (io), 37 P13/TIOCD0/TCLKB/A23 (io), 38 P14/TIOCA1/~{IRQ0} (io), 39 P15/TIOCB1/TCLKC (io), 40 P16/TIOCA2/~{IRQ1} (io), 41 P17/TIOCB2/TCLKD (io), 43 RESERVE, 44 P96/DA0 (io), 45 P47/~{EXIRQ6} (io), 46 P46/~{EXIRQ5} (io), 47 P45 (io), 48 P44/~{EXIRQ4} (io), 49 P43/~{EXIRQ3} (io), 50 P42/~{EXIRQ2} (io), 51 P41/~{EXIRQ1} (io), 52 P40/~{EXIRQ0} (io), 53 VREF (in), 55 MD0 (in), 56 MD1 (in), 57 RESERVE, 59 ~{RES} (in), 60 NMI (in), 61 ~{STBY} (in), 63 XTAL (in), 65 EXTAL (in), 66 FWE (in), 67 MD2 (in), 68 PF7/F (io), 69 PF6/~{AS} (io), 70 PF5/~{RD} (io), 71 PF4/~{HWR} (io), 72 PF3/~{LWR}/~{IRQ3} (io), 73 PF2/~{WAIT} (io), 74 PF1/~{BACK} (io), 75 PF0/~{BREQ}/~{IRQ2} (io), 76 P30/TXD0 (io), 77 P31/RXD0 (io), 78 P32/SCK0/~{IRQ4} (io), 79 P33/TXD1 (io), 80 P34/RXD1 (io), 81 P35/SCK1/~{IRQ5} (io), 82 P36/~{EXIRQ7} (io), 83 P77 (io), 84 P76/EXMSTP (io), 85 P75/~{EXMS} (io), 86 P74/~{MRES}/~{EXDTCE} (io), 87 P73/~{TEND1}/~{CS7} (io), 88 P72/~{TEND0}/~{CS6} (io), 89 P71/~{DREQ1}/~{CS5} (io), 90 P70/~{DREQ0}/~{CS4} (io), 91 PG0/~{IRQ6} (io), 92 PG1/~{CS3}/~{IRQ7} (io), 93 PG2/~{CS2} (io), 94 PG3/~{CS1} (io), 95 PG4/~{CS0} (io), 96 PE0/D0 (io), 97 PE1/D1 (io), 98 PE2/D2 (io), 99 PE3/D3 (io), 100 PE4/D4 (io)
part B pins: 12 VCC (power), 14 VSS (power), 42 AVSS (power), 54 AVCC (power), 58 VSS (power), 62 VCC (power), 64 VSS (power)

## HD64F2215BR
designator U?
Flash memory H8S/2200 Series, 2215 Group MCU, 256K ROM, 16K RAM, BP-112 Pkg; Published: 28-Aug-2009; DatasheetVersion: Rev.8.00, Jan-2009; PackageVersion: Sep-2005; PackageReference: PLBG0112GA-A; Publisher: Altium Limited; PackageDescription: 112-Ball Plastic Low Profile Thin-Fine Pitch BGA, 10 x 10 mm Body, 0.8 mm Pitch; Code_JEITA: P-LFBGA112-10x10-0.80; ComponentLink1Description: Manufacturer Link; ComponentLink1URL: http://sg.renesas.com/fmwk.jsp?cnt=h8s_family_landing.jsp&fp=/products/mpumcu/h8s_family/; ComponentLink2Description: Datasheet; ComponentLink2URL: http://documentation.renesas.com/eng/products/mpumcu/rej09b0140_2215hm.pdf; ComponentLink3Description: Packaging Specification; ComponentLink3URL: http://sg.renesas.com/media/products/common_info/package/pdf/ic/code/plbg0112ga_a.pdf
footprint PLBG0112GA-A (BGA, 112-Leads, Body 10x10mm, Pitch 0.8mm)
part A pins: A2 PE6/D6 (io), A3 PE3/D3 (io), A4 PE0/D0 (io), A6 PG4/~{CS0} (io), A7 PG1/~{CS3}/~{IRQ7} (io), A8 P71/~{CS5} (io), A9 P74/~{MRES} (io), A10 P34/RXD1 (io), B1 PD1/D9 (io), B2 PD0/D8 (io), B3 PE5/D5 (io), B4 PE2/D2 (io), B7 PG2/~{CS2} (io), B8 P72/TMO0/~{CS6} (io), B9 P36(PUPD+) (io), B10 P33/TXD1 (io), B11 P31/RXD0 (io), C1 PD4/D12 (io), C2 PD3/D11 (io), C3 PE7/D7 (io), C4 PE4/D4 (io), C6 PG3/~{CS1} (io), C7 PG0 (io), C8 P73/TMO1/~{CS7} (io), C9 P32/SCK0/~{IRQ4} (io), C10 P30/TXD0 (io), C11 PF1/~{BACK} (io), D1 PD7/D15 (io), D2 PD6/D14 (io), D3 PD5/D13 (io), D4 PD2/D10 (io), D5 PE1/D1 (io), D7 P70/TMRI01/TMCI01/~{CS4} (io), D8 P35/SCK1/~{IRQ5} (io), D9 PF0/~{BREQ}/~{IRQ2} (io), D10 PF2/~{WAIT} (io), D11 PF4/~{HWR} (io), E2 PC1/A1 (io), E3 PC0/A0 (io), E8 PF3/~{LWR}/~{ADTRG}/~{IRQ3} (io), E9 PF5/~{RD} (io), E10 PF6/~{AS} (io), E11 PF7/F (io), F1 PC3/A3 (io), F2 PC4/A4 (io), F3 PC2/A2 (io), F4 PC5/A5 (io), F8 MD2 (in), F9 XTAL (in), F10 EXTAL (in), G1 PC6/A6 (io), G2 PC7/A7 (io), G3 PB0/A8 (io), G4 PB2/A10 (io), G8 NMI (in), G9 ~{STBY} (in), G11 ~{RES} (in), H1 PB1/A9 (io), H2 PB3/A11 (io), H3 PB5/A13 (io), H4 PA3/A19/SCK2/SUSPND (io), H5 P15/TIOCB1/TCLKC/FSE0 (io), H6 P42/AN2 (io), H7 USPND (out), H9 MD0 (in), H10 MD1 (in), H11 FWE (in), J1 PB4/A12 (io), J2 PB6/A14 (io), J3 PA0/A16 (io), J4 P12/TIOCC0/TCLKA/A22/RCV (io), J5 P16/TIOCA2/~{IRQ1} (io), J6 P97/AN15/DA1 (io), J7 VREF (in), J10 XTAL48 (in), J11 EXTAL48 (in), K1 PB7/A15 (io), K2 PA1/A17/TXD2 (io), K3 P10/TIOCA0/A20/VM (io), K4 P13/TIOCD0/TCLKB/A23/VPO (io), K6 P43/AN3 (io), K7 P40/AN0 (io), K8 VBUS (in), K9 USD+ (out), K11 PLLCAP, L2 PA2/A18/RXD2 (io), L3 P11/TIOCB0/A21/VP (io), L4 P14/TIOCA1/~{IRQ0} (io), L5 P17/TIOCB2/TCLKD/~{OE} (io), L6 P96/AN14/DA0 (io), L7 P41/AN1 (io), L9 ~{UBPM} (in), L10 USD- (out)
part B pins: A1 ~{EMLE}/NC, A5 TMS (in), B5 ~{TRST} (in), B6 TDO (out), C5 TDI (in), D6 TCK (in)
part C pins: E1 VSS (power), E4 VCC (power), F11 VCC (power), G10 VSS (power), H8 PLLVCC (power), J8 DRVCC (power), J9 DRVSS (power), K5 AVSS (power), K10 PLLVSS (power), L8 AVCC (power)
part D pins: A11 NC, L1 NC, L11 NC

## HD64F2215CUBR
designator U?
Flash memory H8S/2200 Series, 2215 Group MCU, 256K ROM, 20K RAM, BP-112 Pkg; Published: 28-Aug-2009; DatasheetVersion: Rev.8.00, Jan-2009; PackageVersion: Sep-2005; PackageReference: PLBG0112GA-A; Publisher: Altium Limited; PackageDescription: 112-Ball Plastic Low Profile Thin-Fine Pitch BGA, 10 x 10 mm Body, 0.8 mm Pitch; Code_JEITA: P-LFBGA112-10x10-0.80; ComponentLink1Description: Manufacturer Link; ComponentLink1URL: http://sg.renesas.com/fmwk.jsp?cnt=h8s_family_landing.jsp&fp=/products/mpumcu/h8s_family/; ComponentLink2Description: Datasheet; ComponentLink2URL: http://documentation.renesas.com/eng/products/mpumcu/rej09b0140_2215hm.pdf; ComponentLink3Description: Packaging Specification; ComponentLink3URL: http://sg.renesas.com/media/products/common_info/package/pdf/ic/code/plbg0112ga_a.pdf
footprint PLBG0112GA-A (BGA, 112-Leads, Body 10x10mm, Pitch 0.8mm)
part A pins: A2 PE6/D6 (io), A3 PE3/D3 (io), A4 PE0/D0 (io), A6 PG4/~{CS0} (io), A7 PG1/~{CS3}/~{IRQ7} (io), A8 P71/~{CS5} (io), A9 P74/~{MRES} (io), A10 P34/RXD1 (io), B1 PD1/D9 (io), B2 PD0/D8 (io), B3 PE5/D5 (io), B4 PE2/D2 (io), B7 PG2/~{CS2} (io), B8 P72/TMO0/~{CS6} (io), B9 P36(PUPD+) (io), B10 P33/TXD1 (io), B11 P31/RXD0 (io), C1 PD4/D12 (io), C2 PD3/D11 (io), C3 PE7/D7 (io), C4 PE4/D4 (io), C6 PG3/~{CS1} (io), C7 PG0 (io), C8 P73/TMO1/~{CS7} (io), C9 P32/SCK0/~{IRQ4} (io), C10 P30/TXD0 (io), C11 PF1/~{BACK} (io), D1 PD7/D15 (io), D2 PD6/D14 (io), D3 PD5/D13 (io), D4 PD2/D10 (io), D5 PE1/D1 (io), D7 P70/TMRI01/TMCI01/~{CS4} (io), D8 P35/SCK1/~{IRQ5} (io), D9 PF0/~{BREQ}/~{IRQ2} (io), D10 PF2/~{WAIT} (io), D11 PF4/~{HWR} (io), E2 PC1/A1 (io), E3 PC0/A0 (io), E8 PF3/~{LWR}/~{ADTRG}/~{IRQ3} (io), E9 PF5/~{RD} (io), E10 PF6/~{AS} (io), E11 PF7/F (io), F1 PC3/A3 (io), F2 PC4/A4 (io), F3 PC2/A2 (io), F4 PC5/A5 (io), F8 MD2 (in), F9 XTAL (in), F10 EXTAL (in), G1 PC6/A6 (io), G2 PC7/A7 (io), G3 PB0/A8 (io), G4 PB2/A10 (io), G8 NMI (in), G9 ~{STBY} (in), G11 ~{RES} (in), H1 PB1/A9 (io), H2 PB3/A11 (io), H3 PB5/A13 (io), H4 PA3/A19/SCK2/SUSPND (io), H5 P15/TIOCB1/TCLKC/FSE0 (io), H6 P42/AN2 (io), H7 USPND (out), H9 MD0 (in), H10 MD1 (in), H11 FWE (in), J1 PB4/A12 (io), J2 PB6/A14 (io), J3 PA0/A16 (io), J4 P12/TIOCC0/TCLKA/A22/RCV (io), J5 P16/TIOCA2/~{IRQ1} (io), J6 P97/AN15/DA1 (io), J7 VREF (in), J10 XTAL48 (in), J11 EXTAL48 (in), K1 PB7/A15 (io), K2 PA1/A17/TXD2 (io), K3 P10/TIOCA0/A20/VM (io), K4 P13/TIOCD0/TCLKB/A23/VPO (io), K6 P43/AN3 (io), K7 P40/AN0 (io), K8 VBUS (in), K9 USD+ (out), K11 PLLCAP, L2 PA2/A18/RXD2 (io), L3 P11/TIOCB0/A21/VP (io), L4 P14/TIOCA1/~{IRQ0} (io), L5 P17/TIOCB2/TCLKD/~{OE} (io), L6 P96/AN14/DA0 (io), L7 P41/AN1 (io), L9 ~{UBPM} (in), L10 USD- (out)
part B pins: A1 ~{EMLE}/NC, A5 TMS (in), B5 ~{TRST} (in), B6 TDO (out), C5 TDI (in), D6 TCK (in)
part C pins: E1 VSS (power), E4 VCC (power), F11 VCC (power), G10 VSS (power), H8 PLLVCC (power), J8 DRVCC (power), J9 DRVSS (power), K5 AVSS (power), K10 PLLVSS (power), L8 AVCC (power)
part D pins: A11 NC, L1 NC, L11 NC

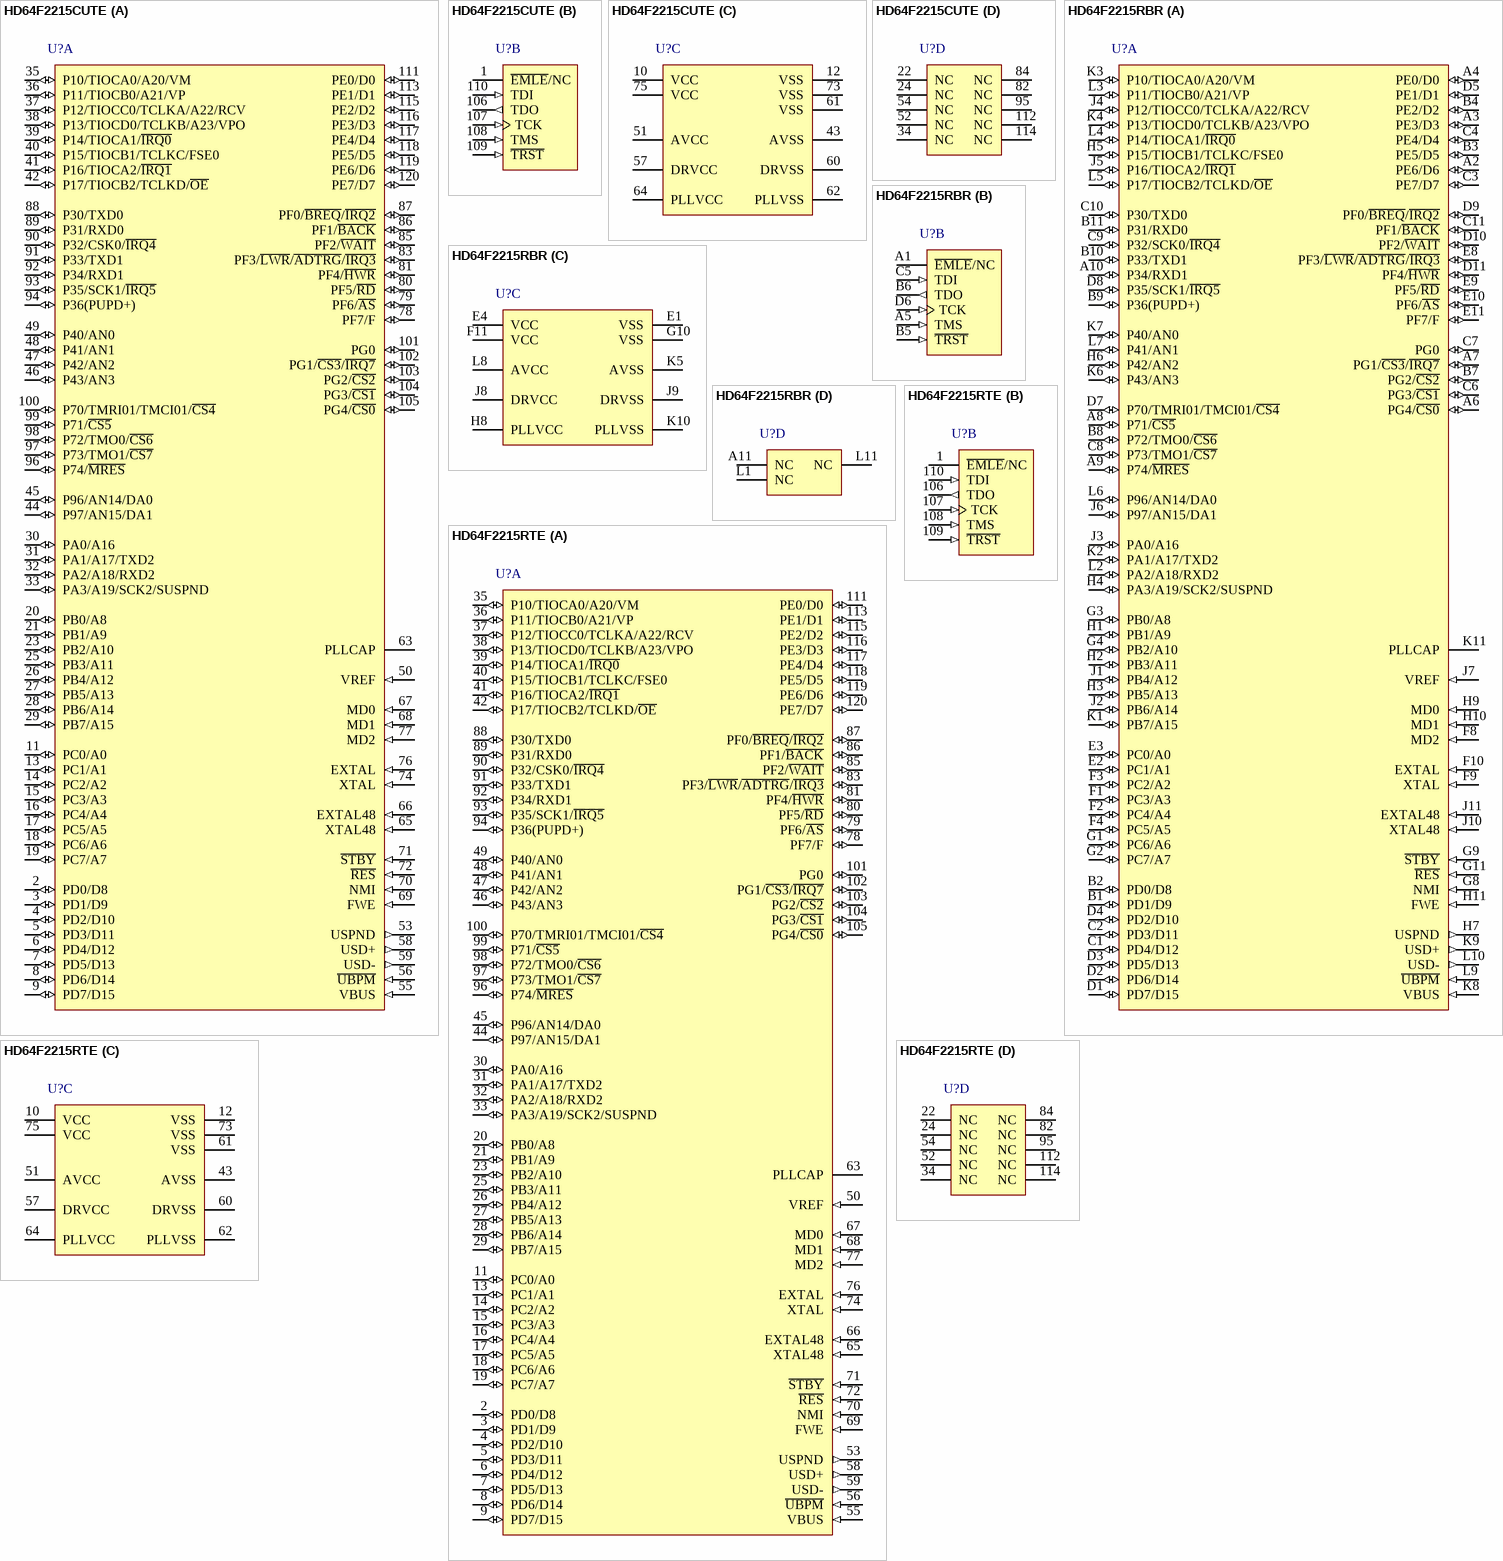
[diagram p26: symbols HD64F2215CUTE to HD64F2215RTE]

## HD64F2215CUTE
designator U?
Flash memory H8S/2200 Series, 2215 Group MCU, 256K ROM, 20K RAM, TFP-120 Pkg; Published: 28-Aug-2009; DatasheetVersion: Rev.8.00, Jan-2009; PackageVersion: Sep-2005; PackageReference: PTQP0120LA-A; Publisher: Altium Limited; PackageDescription: 120-Pin Plastic Thin QFP, 14 x 14 x 1.0 mm Body, 0.4 mm Pitch; Code_JEITA: P-TQFP120-14x14-0.40; ComponentLink1Description: Manufacturer Link; ComponentLink1URL: http://sg.renesas.com/fmwk.jsp?cnt=h8s_family_landing.jsp&fp=/products/mpumcu/h8s_family/; ComponentLink2Description: Datasheet; ComponentLink2URL: http://documentation.renesas.com/eng/products/mpumcu/rej09b0140_2215hm.pdf; ComponentLink3Description: Packaging Specification; ComponentLink3URL: http://sg.renesas.com/media/products/common_info/package/pdf/ic/code/ptqp0120la_a.pdf
footprint PTQP0120LA-A_N (Thin QFP, 120-Leads, Body 14x14mm, Pitch 0.4mm, IPC Medium Density)
footprint PTQP0120LA-A_L (Thin QFP, 120-Leads, Body 14x14mm, Pitch 0.4mm, IPC High Density)
footprint PTQP0120LA-A_M (Thin QFP, 120-Leads, Body 14x14mm, Pitch 0.4mm, IPC Low Density)
part A pins: 2 PD0/D8 (io), 3 PD1/D9 (io), 4 PD2/D10 (io), 5 PD3/D11 (io), 6 PD4/D12 (io), 7 PD5/D13 (io), 8 PD6/D14 (io), 9 PD7/D15 (io), 11 PC0/A0 (io), 13 PC1/A1 (io), 14 PC2/A2 (io), 15 PC3/A3 (io), 16 PC4/A4 (io), 17 PC5/A5 (io), 18 PC6/A6 (io), 19 PC7/A7 (io), 20 PB0/A8 (io), 21 PB1/A9 (io), 23 PB2/A10 (io), 25 PB3/A11 (io), 26 PB4/A12 (io), 27 PB5/A13 (io), 28 PB6/A14 (io), 29 PB7/A15 (io), 30 PA0/A16 (io), 31 PA1/A17/TXD2 (io), 32 PA2/A18/RXD2 (io), 33 PA3/A19/SCK2/SUSPND (io), 35 P10/TIOCA0/A20/VM (io), 36 P11/TIOCB0/A21/VP (io), 37 P12/TIOCC0/TCLKA/A22/RCV (io), 38 P13/TIOCD0/TCLKB/A23/VPO (io), 39 P14/TIOCA1/~{IRQ0} (io), 40 P15/TIOCB1/TCLKC/FSE0 (io), 41 P16/TIOCA2/~{IRQ1} (io), 42 P17/TIOCB2/TCLKD/~{OE} (io), 44 P97/AN15/DA1 (io), 45 P96/AN14/DA0 (io), 46 P43/AN3 (io), 47 P42/AN2 (io), 48 P41/AN1 (io), 49 P40/AN0 (io), 50 VREF (in), 53 USPND (out), 55 VBUS (in), 56 ~{UBPM} (in), 58 USD+ (out), 59 USD- (out), 63 PLLCAP, 65 XTAL48 (in), 66 EXTAL48 (in), 67 MD0 (in), 68 MD1 (in), 69 FWE (in), 70 NMI (in), 71 ~{STBY} (in), 72 ~{RES} (in), 74 XTAL (in), 76 EXTAL (in), 77 MD2 (in), 78 PF7/F (io), 79 PF6/~{AS} (io), 80 PF5/~{RD} (io), 81 PF4/~{HWR} (io), 83 PF3/~{LWR}/~{ADTRG}/~{IRQ3} (io), 85 PF2/~{WAIT} (io), 86 PF1/~{BACK} (io), 87 PF0/~{BREQ}/~{IRQ2} (io), 88 P30/TXD0 (io), 89 P31/RXD0 (io), 90 P32/CSK0/~{IRQ4} (io), 91 P33/TXD1 (io), 92 P34/RXD1 (io), 93 P35/SCK1/~{IRQ5} (io), 94 P36(PUPD+) (io), 96 P74/~{MRES} (io), 97 P73/TMO1/~{CS7} (io), 98 P72/TMO0/~{CS6} (io), 99 P71/~{CS5} (io), 100 P70/TMRI01/TMCI01/~{CS4} (io), 101 PG0 (io), 102 PG1/~{CS3}/~{IRQ7} (io), 103 PG2/~{CS2} (io), 104 PG3/~{CS1} (io), 105 PG4/~{CS0} (io), 111 PE0/D0 (io), 113 PE1/D1 (io), 115 PE2/D2 (io), 116 PE3/D3 (io), 117 PE4/D4 (io), 118 PE5/D5 (io), 119 PE6/D6 (io), 120 PE7/D7 (io)
part B pins: 1 ~{EMLE}/NC, 106 TDO (out), 107 TCK (in), 108 TMS (in), 109 ~{TRST} (in), 110 TDI (in)
part C pins: 10 VCC (power), 12 VSS (power), 43 AVSS (power), 51 AVCC (power), 57 DRVCC (power), 60 DRVSS (power), 61 VSS (power), 62 PLLVSS (power), 64 PLLVCC (power), 73 VSS (power), 75 VCC (power)
part D pins: 22 NC, 24 NC, 34 NC, 52 NC, 54 NC, 82 NC, 84 NC, 95 NC, 112 NC, 114 NC

## HD64F2215RBR
designator U?
Flash memory H8S/2200 Series, 2215 Group MCU, 256K ROM, 20K RAM, BP-112 Pkg; Published: 28-Aug-2009; DatasheetVersion: Rev.8.00, Jan-2009; PackageVersion: Sep-2005; PackageReference: PLBG0112GA-A; Publisher: Altium Limited; PackageDescription: 112-Ball Plastic Low Profile Thin-Fine Pitch BGA, 10 x 10 mm Body, 0.8 mm Pitch; Code_JEITA: P-LFBGA112-10x10-0.80; ComponentLink1Description: Manufacturer Link; ComponentLink1URL: http://sg.renesas.com/fmwk.jsp?cnt=h8s_family_landing.jsp&fp=/products/mpumcu/h8s_family/; ComponentLink2Description: Datasheet; ComponentLink2URL: http://documentation.renesas.com/eng/products/mpumcu/rej09b0140_2215hm.pdf; ComponentLink3Description: Packaging Specification; ComponentLink3URL: http://sg.renesas.com/media/products/common_info/package/pdf/ic/code/plbg0112ga_a.pdf
footprint PLBG0112GA-A (BGA, 112-Leads, Body 10x10mm, Pitch 0.8mm)
part A pins: A2 PE6/D6 (io), A3 PE3/D3 (io), A4 PE0/D0 (io), A6 PG4/~{CS0} (io), A7 PG1/~{CS3}/~{IRQ7} (io), A8 P71/~{CS5} (io), A9 P74/~{MRES} (io), A10 P34/RXD1 (io), B1 PD1/D9 (io), B2 PD0/D8 (io), B3 PE5/D5 (io), B4 PE2/D2 (io), B7 PG2/~{CS2} (io), B8 P72/TMO0/~{CS6} (io), B9 P36(PUPD+) (io), B10 P33/TXD1 (io), B11 P31/RXD0 (io), C1 PD4/D12 (io), C2 PD3/D11 (io), C3 PE7/D7 (io), C4 PE4/D4 (io), C6 PG3/~{CS1} (io), C7 PG0 (io), C8 P73/TMO1/~{CS7} (io), C9 P32/SCK0/~{IRQ4} (io), C10 P30/TXD0 (io), C11 PF1/~{BACK} (io), D1 PD7/D15 (io), D2 PD6/D14 (io), D3 PD5/D13 (io), D4 PD2/D10 (io), D5 PE1/D1 (io), D7 P70/TMRI01/TMCI01/~{CS4} (io), D8 P35/SCK1/~{IRQ5} (io), D9 PF0/~{BREQ}/~{IRQ2} (io), D10 PF2/~{WAIT} (io), D11 PF4/~{HWR} (io), E2 PC1/A1 (io), E3 PC0/A0 (io), E8 PF3/~{LWR}/~{ADTRG}/~{IRQ3} (io), E9 PF5/~{RD} (io), E10 PF6/~{AS} (io), E11 PF7/F (io), F1 PC3/A3 (io), F2 PC4/A4 (io), F3 PC2/A2 (io), F4 PC5/A5 (io), F8 MD2 (in), F9 XTAL (in), F10 EXTAL (in), G1 PC6/A6 (io), G2 PC7/A7 (io), G3 PB0/A8 (io), G4 PB2/A10 (io), G8 NMI (in), G9 ~{STBY} (in), G11 ~{RES} (in), H1 PB1/A9 (io), H2 PB3/A11 (io), H3 PB5/A13 (io), H4 PA3/A19/SCK2/SUSPND (io), H5 P15/TIOCB1/TCLKC/FSE0 (io), H6 P42/AN2 (io), H7 USPND (out), H9 MD0 (in), H10 MD1 (in), H11 FWE (in), J1 PB4/A12 (io), J2 PB6/A14 (io), J3 PA0/A16 (io), J4 P12/TIOCC0/TCLKA/A22/RCV (io), J5 P16/TIOCA2/~{IRQ1} (io), J6 P97/AN15/DA1 (io), J7 VREF (in), J10 XTAL48 (in), J11 EXTAL48 (in), K1 PB7/A15 (io), K2 PA1/A17/TXD2 (io), K3 P10/TIOCA0/A20/VM (io), K4 P13/TIOCD0/TCLKB/A23/VPO (io), K6 P43/AN3 (io), K7 P40/AN0 (io), K8 VBUS (in), K9 USD+ (out), K11 PLLCAP, L2 PA2/A18/RXD2 (io), L3 P11/TIOCB0/A21/VP (io), L4 P14/TIOCA1/~{IRQ0} (io), L5 P17/TIOCB2/TCLKD/~{OE} (io), L6 P96/AN14/DA0 (io), L7 P41/AN1 (io), L9 ~{UBPM} (in), L10 USD- (out)
part B pins: A1 ~{EMLE}/NC, A5 TMS (in), B5 ~{TRST} (in), B6 TDO (out), C5 TDI (in), D6 TCK (in)
part C pins: E1 VSS (power), E4 VCC (power), F11 VCC (power), G10 VSS (power), H8 PLLVCC (power), J8 DRVCC (power), J9 DRVSS (power), K5 AVSS (power), K10 PLLVSS (power), L8 AVCC (power)
part D pins: A11 NC, L1 NC, L11 NC

## HD64F2215RTE
designator U?
Flash memory H8S/2200 Series, 2215 Group MCU, 256K ROM, 20K RAM, TFP-120 Pkg; Published: 28-Aug-2009; DatasheetVersion: Rev.8.00, Jan-2009; PackageVersion: Sep-2005; PackageReference: PTQP0120LA-A; Publisher: Altium Limited; PackageDescription: 120-Pin Plastic Thin QFP, 14 x 14 x 1.0 mm Body, 0.4 mm Pitch; Code_JEITA: P-TQFP120-14x14-0.40; ComponentLink1Description: Manufacturer Link; ComponentLink1URL: http://sg.renesas.com/fmwk.jsp?cnt=h8s_family_landing.jsp&fp=/products/mpumcu/h8s_family/; ComponentLink2Description: Datasheet; ComponentLink2URL: http://documentation.renesas.com/eng/products/mpumcu/rej09b0140_2215hm.pdf; ComponentLink3Description: Packaging Specification; ComponentLink3URL: http://sg.renesas.com/media/products/common_info/package/pdf/ic/code/ptqp0120la_a.pdf
footprint PTQP0120LA-A_N (Thin QFP, 120-Leads, Body 14x14mm, Pitch 0.4mm, IPC Medium Density)
footprint PTQP0120LA-A_L (Thin QFP, 120-Leads, Body 14x14mm, Pitch 0.4mm, IPC High Density)
footprint PTQP0120LA-A_M (Thin QFP, 120-Leads, Body 14x14mm, Pitch 0.4mm, IPC Low Density)
part A pins: 2 PD0/D8 (io), 3 PD1/D9 (io), 4 PD2/D10 (io), 5 PD3/D11 (io), 6 PD4/D12 (io), 7 PD5/D13 (io), 8 PD6/D14 (io), 9 PD7/D15 (io), 11 PC0/A0 (io), 13 PC1/A1 (io), 14 PC2/A2 (io), 15 PC3/A3 (io), 16 PC4/A4 (io), 17 PC5/A5 (io), 18 PC6/A6 (io), 19 PC7/A7 (io), 20 PB0/A8 (io), 21 PB1/A9 (io), 23 PB2/A10 (io), 25 PB3/A11 (io), 26 PB4/A12 (io), 27 PB5/A13 (io), 28 PB6/A14 (io), 29 PB7/A15 (io), 30 PA0/A16 (io), 31 PA1/A17/TXD2 (io), 32 PA2/A18/RXD2 (io), 33 PA3/A19/SCK2/SUSPND (io), 35 P10/TIOCA0/A20/VM (io), 36 P11/TIOCB0/A21/VP (io), 37 P12/TIOCC0/TCLKA/A22/RCV (io), 38 P13/TIOCD0/TCLKB/A23/VPO (io), 39 P14/TIOCA1/~{IRQ0} (io), 40 P15/TIOCB1/TCLKC/FSE0 (io), 41 P16/TIOCA2/~{IRQ1} (io), 42 P17/TIOCB2/TCLKD/~{OE} (io), 44 P97/AN15/DA1 (io), 45 P96/AN14/DA0 (io), 46 P43/AN3 (io), 47 P42/AN2 (io), 48 P41/AN1 (io), 49 P40/AN0 (io), 50 VREF (in), 53 USPND (out), 55 VBUS (in), 56 ~{UBPM} (in), 58 USD+ (out), 59 USD- (out), 63 PLLCAP, 65 XTAL48 (in), 66 EXTAL48 (in), 67 MD0 (in), 68 MD1 (in), 69 FWE (in), 70 NMI (in), 71 ~{STBY} (in), 72 ~{RES} (in), 74 XTAL (in), 76 EXTAL (in), 77 MD2 (in), 78 PF7/F (io), 79 PF6/~{AS} (io), 80 PF5/~{RD} (io), 81 PF4/~{HWR} (io), 83 PF3/~{LWR}/~{ADTRG}/~{IRQ3} (io), 85 PF2/~{WAIT} (io), 86 PF1/~{BACK} (io), 87 PF0/~{BREQ}/~{IRQ2} (io), 88 P30/TXD0 (io), 89 P31/RXD0 (io), 90 P32/CSK0/~{IRQ4} (io), 91 P33/TXD1 (io), 92 P34/RXD1 (io), 93 P35/SCK1/~{IRQ5} (io), 94 P36(PUPD+) (io), 96 P74/~{MRES} (io), 97 P73/TMO1/~{CS7} (io), 98 P72/TMO0/~{CS6} (io), 99 P71/~{CS5} (io), 100 P70/TMRI01/TMCI01/~{CS4} (io), 101 PG0 (io), 102 PG1/~{CS3}/~{IRQ7} (io), 103 PG2/~{CS2} (io), 104 PG3/~{CS1} (io), 105 PG4/~{CS0} (io), 111 PE0/D0 (io), 113 PE1/D1 (io), 115 PE2/D2 (io), 116 PE3/D3 (io), 117 PE4/D4 (io), 118 PE5/D5 (io), 119 PE6/D6 (io), 120 PE7/D7 (io)
part B pins: 1 ~{EMLE}/NC, 106 TDO (out), 107 TCK (in), 108 TMS (in), 109 ~{TRST} (in), 110 TDI (in)
part C pins: 10 VCC (power), 12 VSS (power), 43 AVSS (power), 51 AVCC (power), 57 DRVCC (power), 60 DRVSS (power), 61 VSS (power), 62 PLLVSS (power), 64 PLLVCC (power), 73 VSS (power), 75 VCC (power)
part D pins: 22 NC, 24 NC, 34 NC, 52 NC, 54 NC, 82 NC, 84 NC, 95 NC, 112 NC, 114 NC

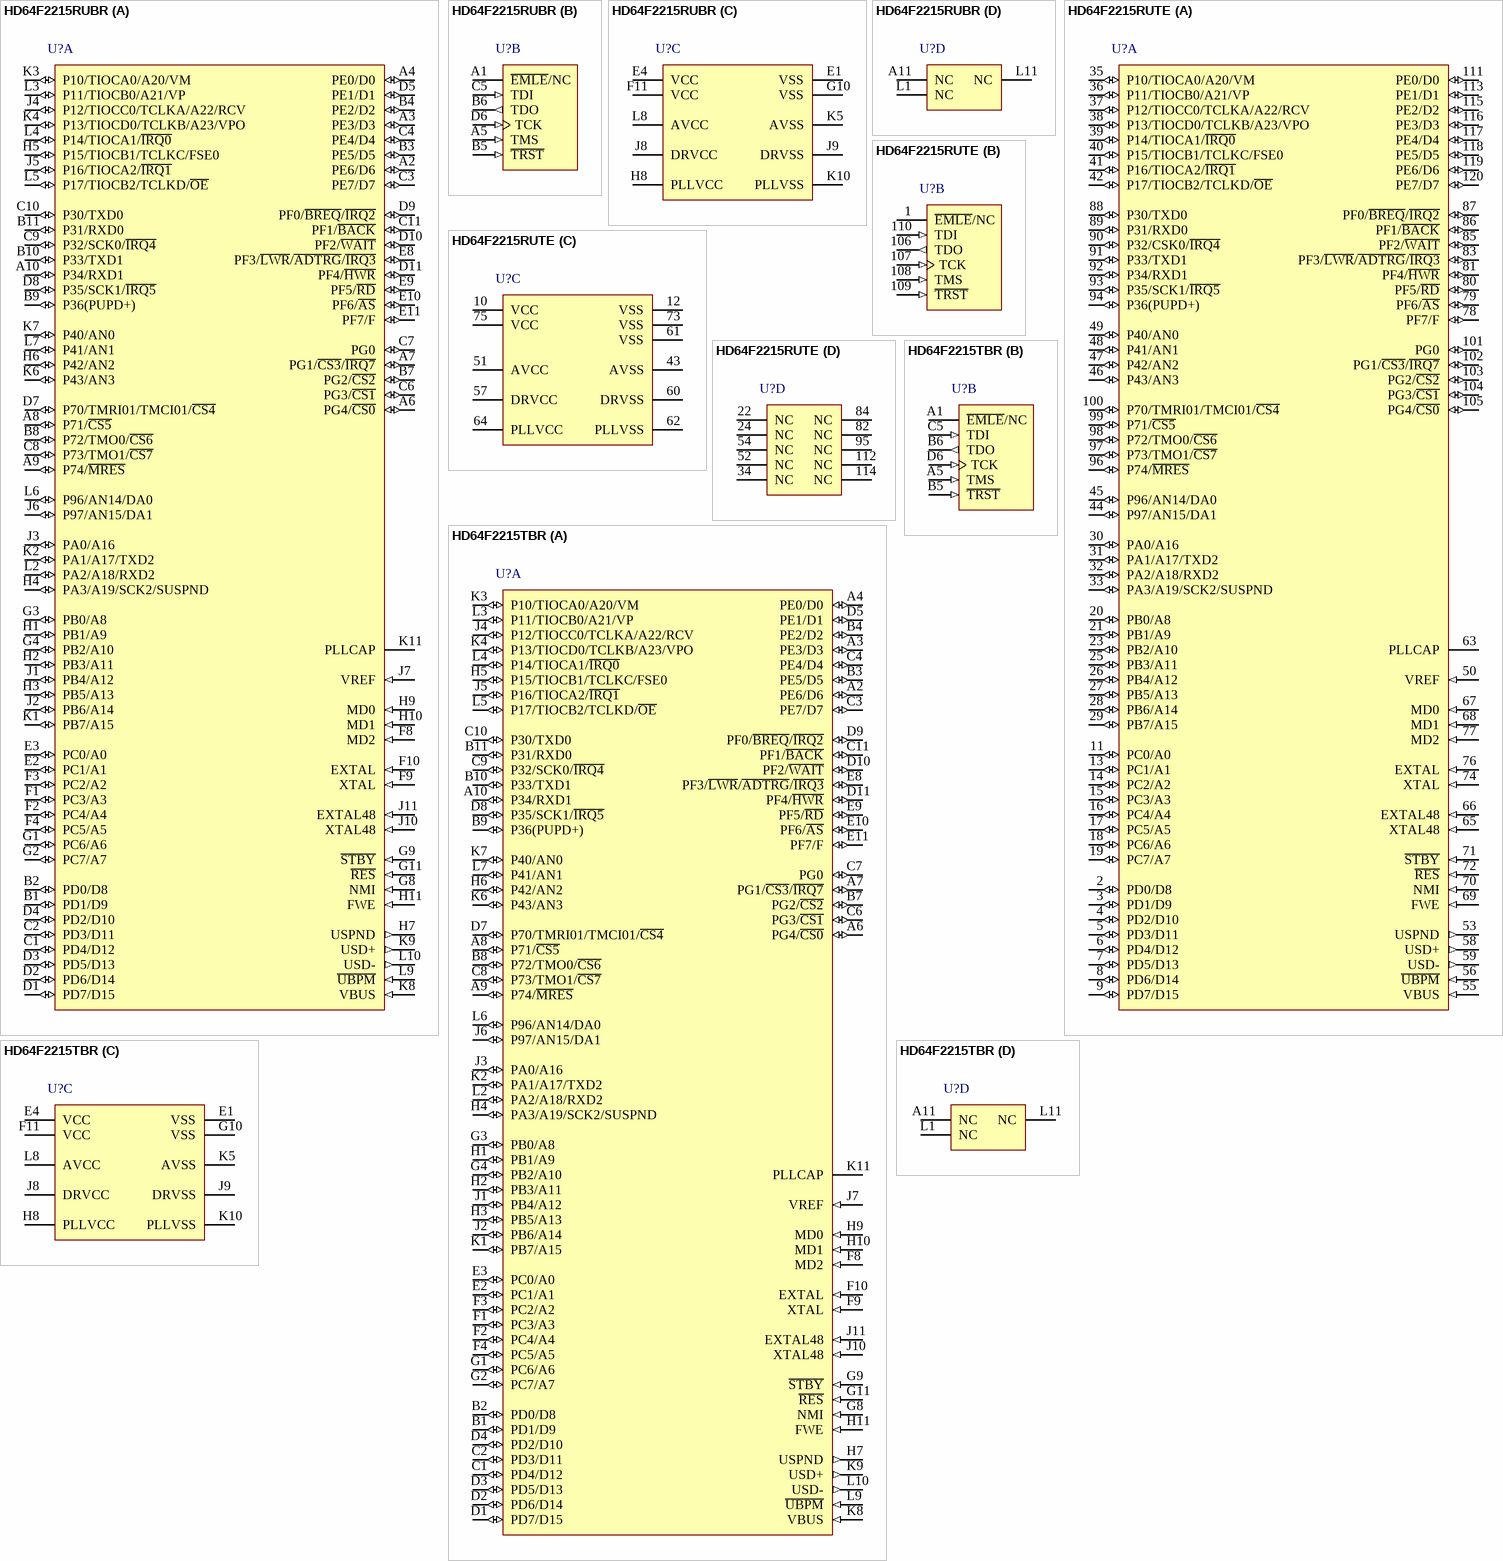
[diagram p27: symbols HD64F2215RUBR to HD64F2215TBR]

## HD64F2215RUBR
designator U?
Flash memory H8S/2200 Series, 2215 Group MCU, 256K ROM, 20K RAM, BP-112 Pkg; Published: 28-Aug-2009; DatasheetVersion: Rev.8.00, Jan-2009; PackageVersion: Sep-2005; PackageReference: PLBG0112GA-A; Publisher: Altium Limited; PackageDescription: 112-Ball Plastic Low Profile Thin-Fine Pitch BGA, 10 x 10 mm Body, 0.8 mm Pitch; Code_JEITA: P-LFBGA112-10x10-0.80; ComponentLink1Description: Manufacturer Link; ComponentLink1URL: http://sg.renesas.com/fmwk.jsp?cnt=h8s_family_landing.jsp&fp=/products/mpumcu/h8s_family/; ComponentLink2Description: Datasheet; ComponentLink2URL: http://documentation.renesas.com/eng/products/mpumcu/rej09b0140_2215hm.pdf; ComponentLink3Description: Packaging Specification; ComponentLink3URL: http://sg.renesas.com/media/products/common_info/package/pdf/ic/code/plbg0112ga_a.pdf
footprint PLBG0112GA-A (BGA, 112-Leads, Body 10x10mm, Pitch 0.8mm)
part A pins: A2 PE6/D6 (io), A3 PE3/D3 (io), A4 PE0/D0 (io), A6 PG4/~{CS0} (io), A7 PG1/~{CS3}/~{IRQ7} (io), A8 P71/~{CS5} (io), A9 P74/~{MRES} (io), A10 P34/RXD1 (io), B1 PD1/D9 (io), B2 PD0/D8 (io), B3 PE5/D5 (io), B4 PE2/D2 (io), B7 PG2/~{CS2} (io), B8 P72/TMO0/~{CS6} (io), B9 P36(PUPD+) (io), B10 P33/TXD1 (io), B11 P31/RXD0 (io), C1 PD4/D12 (io), C2 PD3/D11 (io), C3 PE7/D7 (io), C4 PE4/D4 (io), C6 PG3/~{CS1} (io), C7 PG0 (io), C8 P73/TMO1/~{CS7} (io), C9 P32/SCK0/~{IRQ4} (io), C10 P30/TXD0 (io), C11 PF1/~{BACK} (io), D1 PD7/D15 (io), D2 PD6/D14 (io), D3 PD5/D13 (io), D4 PD2/D10 (io), D5 PE1/D1 (io), D7 P70/TMRI01/TMCI01/~{CS4} (io), D8 P35/SCK1/~{IRQ5} (io), D9 PF0/~{BREQ}/~{IRQ2} (io), D10 PF2/~{WAIT} (io), D11 PF4/~{HWR} (io), E2 PC1/A1 (io), E3 PC0/A0 (io), E8 PF3/~{LWR}/~{ADTRG}/~{IRQ3} (io), E9 PF5/~{RD} (io), E10 PF6/~{AS} (io), E11 PF7/F (io), F1 PC3/A3 (io), F2 PC4/A4 (io), F3 PC2/A2 (io), F4 PC5/A5 (io), F8 MD2 (in), F9 XTAL (in), F10 EXTAL (in), G1 PC6/A6 (io), G2 PC7/A7 (io), G3 PB0/A8 (io), G4 PB2/A10 (io), G8 NMI (in), G9 ~{STBY} (in), G11 ~{RES} (in), H1 PB1/A9 (io), H2 PB3/A11 (io), H3 PB5/A13 (io), H4 PA3/A19/SCK2/SUSPND (io), H5 P15/TIOCB1/TCLKC/FSE0 (io), H6 P42/AN2 (io), H7 USPND (out), H9 MD0 (in), H10 MD1 (in), H11 FWE (in), J1 PB4/A12 (io), J2 PB6/A14 (io), J3 PA0/A16 (io), J4 P12/TIOCC0/TCLKA/A22/RCV (io), J5 P16/TIOCA2/~{IRQ1} (io), J6 P97/AN15/DA1 (io), J7 VREF (in), J10 XTAL48 (in), J11 EXTAL48 (in), K1 PB7/A15 (io), K2 PA1/A17/TXD2 (io), K3 P10/TIOCA0/A20/VM (io), K4 P13/TIOCD0/TCLKB/A23/VPO (io), K6 P43/AN3 (io), K7 P40/AN0 (io), K8 VBUS (in), K9 USD+ (out), K11 PLLCAP, L2 PA2/A18/RXD2 (io), L3 P11/TIOCB0/A21/VP (io), L4 P14/TIOCA1/~{IRQ0} (io), L5 P17/TIOCB2/TCLKD/~{OE} (io), L6 P96/AN14/DA0 (io), L7 P41/AN1 (io), L9 ~{UBPM} (in), L10 USD- (out)
part B pins: A1 ~{EMLE}/NC, A5 TMS (in), B5 ~{TRST} (in), B6 TDO (out), C5 TDI (in), D6 TCK (in)
part C pins: E1 VSS (power), E4 VCC (power), F11 VCC (power), G10 VSS (power), H8 PLLVCC (power), J8 DRVCC (power), J9 DRVSS (power), K5 AVSS (power), K10 PLLVSS (power), L8 AVCC (power)
part D pins: A11 NC, L1 NC, L11 NC

## HD64F2215RUTE
designator U?
Flash memory H8S/2200 Series, 2215 Group MCU, 256K ROM, 20K RAM, TFP-120 Pkg; Published: 28-Aug-2009; DatasheetVersion: Rev.8.00, Jan-2009; PackageVersion: Sep-2005; PackageReference: PTQP0120LA-A; Publisher: Altium Limited; PackageDescription: 120-Pin Plastic Thin QFP, 14 x 14 x 1.0 mm Body, 0.4 mm Pitch; Code_JEITA: P-TQFP120-14x14-0.40; ComponentLink1Description: Manufacturer Link; ComponentLink1URL: http://sg.renesas.com/fmwk.jsp?cnt=h8s_family_landing.jsp&fp=/products/mpumcu/h8s_family/; ComponentLink2Description: Datasheet; ComponentLink2URL: http://documentation.renesas.com/eng/products/mpumcu/rej09b0140_2215hm.pdf; ComponentLink3Description: Packaging Specification; ComponentLink3URL: http://sg.renesas.com/media/products/common_info/package/pdf/ic/code/ptqp0120la_a.pdf
footprint PTQP0120LA-A_N (Thin QFP, 120-Leads, Body 14x14mm, Pitch 0.4mm, IPC Medium Density)
footprint PTQP0120LA-A_L (Thin QFP, 120-Leads, Body 14x14mm, Pitch 0.4mm, IPC High Density)
footprint PTQP0120LA-A_M (Thin QFP, 120-Leads, Body 14x14mm, Pitch 0.4mm, IPC Low Density)
part A pins: 2 PD0/D8 (io), 3 PD1/D9 (io), 4 PD2/D10 (io), 5 PD3/D11 (io), 6 PD4/D12 (io), 7 PD5/D13 (io), 8 PD6/D14 (io), 9 PD7/D15 (io), 11 PC0/A0 (io), 13 PC1/A1 (io), 14 PC2/A2 (io), 15 PC3/A3 (io), 16 PC4/A4 (io), 17 PC5/A5 (io), 18 PC6/A6 (io), 19 PC7/A7 (io), 20 PB0/A8 (io), 21 PB1/A9 (io), 23 PB2/A10 (io), 25 PB3/A11 (io), 26 PB4/A12 (io), 27 PB5/A13 (io), 28 PB6/A14 (io), 29 PB7/A15 (io), 30 PA0/A16 (io), 31 PA1/A17/TXD2 (io), 32 PA2/A18/RXD2 (io), 33 PA3/A19/SCK2/SUSPND (io), 35 P10/TIOCA0/A20/VM (io), 36 P11/TIOCB0/A21/VP (io), 37 P12/TIOCC0/TCLKA/A22/RCV (io), 38 P13/TIOCD0/TCLKB/A23/VPO (io), 39 P14/TIOCA1/~{IRQ0} (io), 40 P15/TIOCB1/TCLKC/FSE0 (io), 41 P16/TIOCA2/~{IRQ1} (io), 42 P17/TIOCB2/TCLKD/~{OE} (io), 44 P97/AN15/DA1 (io), 45 P96/AN14/DA0 (io), 46 P43/AN3 (io), 47 P42/AN2 (io), 48 P41/AN1 (io), 49 P40/AN0 (io), 50 VREF (in), 53 USPND (out), 55 VBUS (in), 56 ~{UBPM} (in), 58 USD+ (out), 59 USD- (out), 63 PLLCAP, 65 XTAL48 (in), 66 EXTAL48 (in), 67 MD0 (in), 68 MD1 (in), 69 FWE (in), 70 NMI (in), 71 ~{STBY} (in), 72 ~{RES} (in), 74 XTAL (in), 76 EXTAL (in), 77 MD2 (in), 78 PF7/F (io), 79 PF6/~{AS} (io), 80 PF5/~{RD} (io), 81 PF4/~{HWR} (io), 83 PF3/~{LWR}/~{ADTRG}/~{IRQ3} (io), 85 PF2/~{WAIT} (io), 86 PF1/~{BACK} (io), 87 PF0/~{BREQ}/~{IRQ2} (io), 88 P30/TXD0 (io), 89 P31/RXD0 (io), 90 P32/CSK0/~{IRQ4} (io), 91 P33/TXD1 (io), 92 P34/RXD1 (io), 93 P35/SCK1/~{IRQ5} (io), 94 P36(PUPD+) (io), 96 P74/~{MRES} (io), 97 P73/TMO1/~{CS7} (io), 98 P72/TMO0/~{CS6} (io), 99 P71/~{CS5} (io), 100 P70/TMRI01/TMCI01/~{CS4} (io), 101 PG0 (io), 102 PG1/~{CS3}/~{IRQ7} (io), 103 PG2/~{CS2} (io), 104 PG3/~{CS1} (io), 105 PG4/~{CS0} (io), 111 PE0/D0 (io), 113 PE1/D1 (io), 115 PE2/D2 (io), 116 PE3/D3 (io), 117 PE4/D4 (io), 118 PE5/D5 (io), 119 PE6/D6 (io), 120 PE7/D7 (io)
part B pins: 1 ~{EMLE}/NC, 106 TDO (out), 107 TCK (in), 108 TMS (in), 109 ~{TRST} (in), 110 TDI (in)
part C pins: 10 VCC (power), 12 VSS (power), 43 AVSS (power), 51 AVCC (power), 57 DRVCC (power), 60 DRVSS (power), 61 VSS (power), 62 PLLVSS (power), 64 PLLVCC (power), 73 VSS (power), 75 VCC (power)
part D pins: 22 NC, 24 NC, 34 NC, 52 NC, 54 NC, 82 NC, 84 NC, 95 NC, 112 NC, 114 NC